# Altium integrated library Xilinx CoolRunner XPLA3.IntLib: 220 symbols (part 5 of 17)
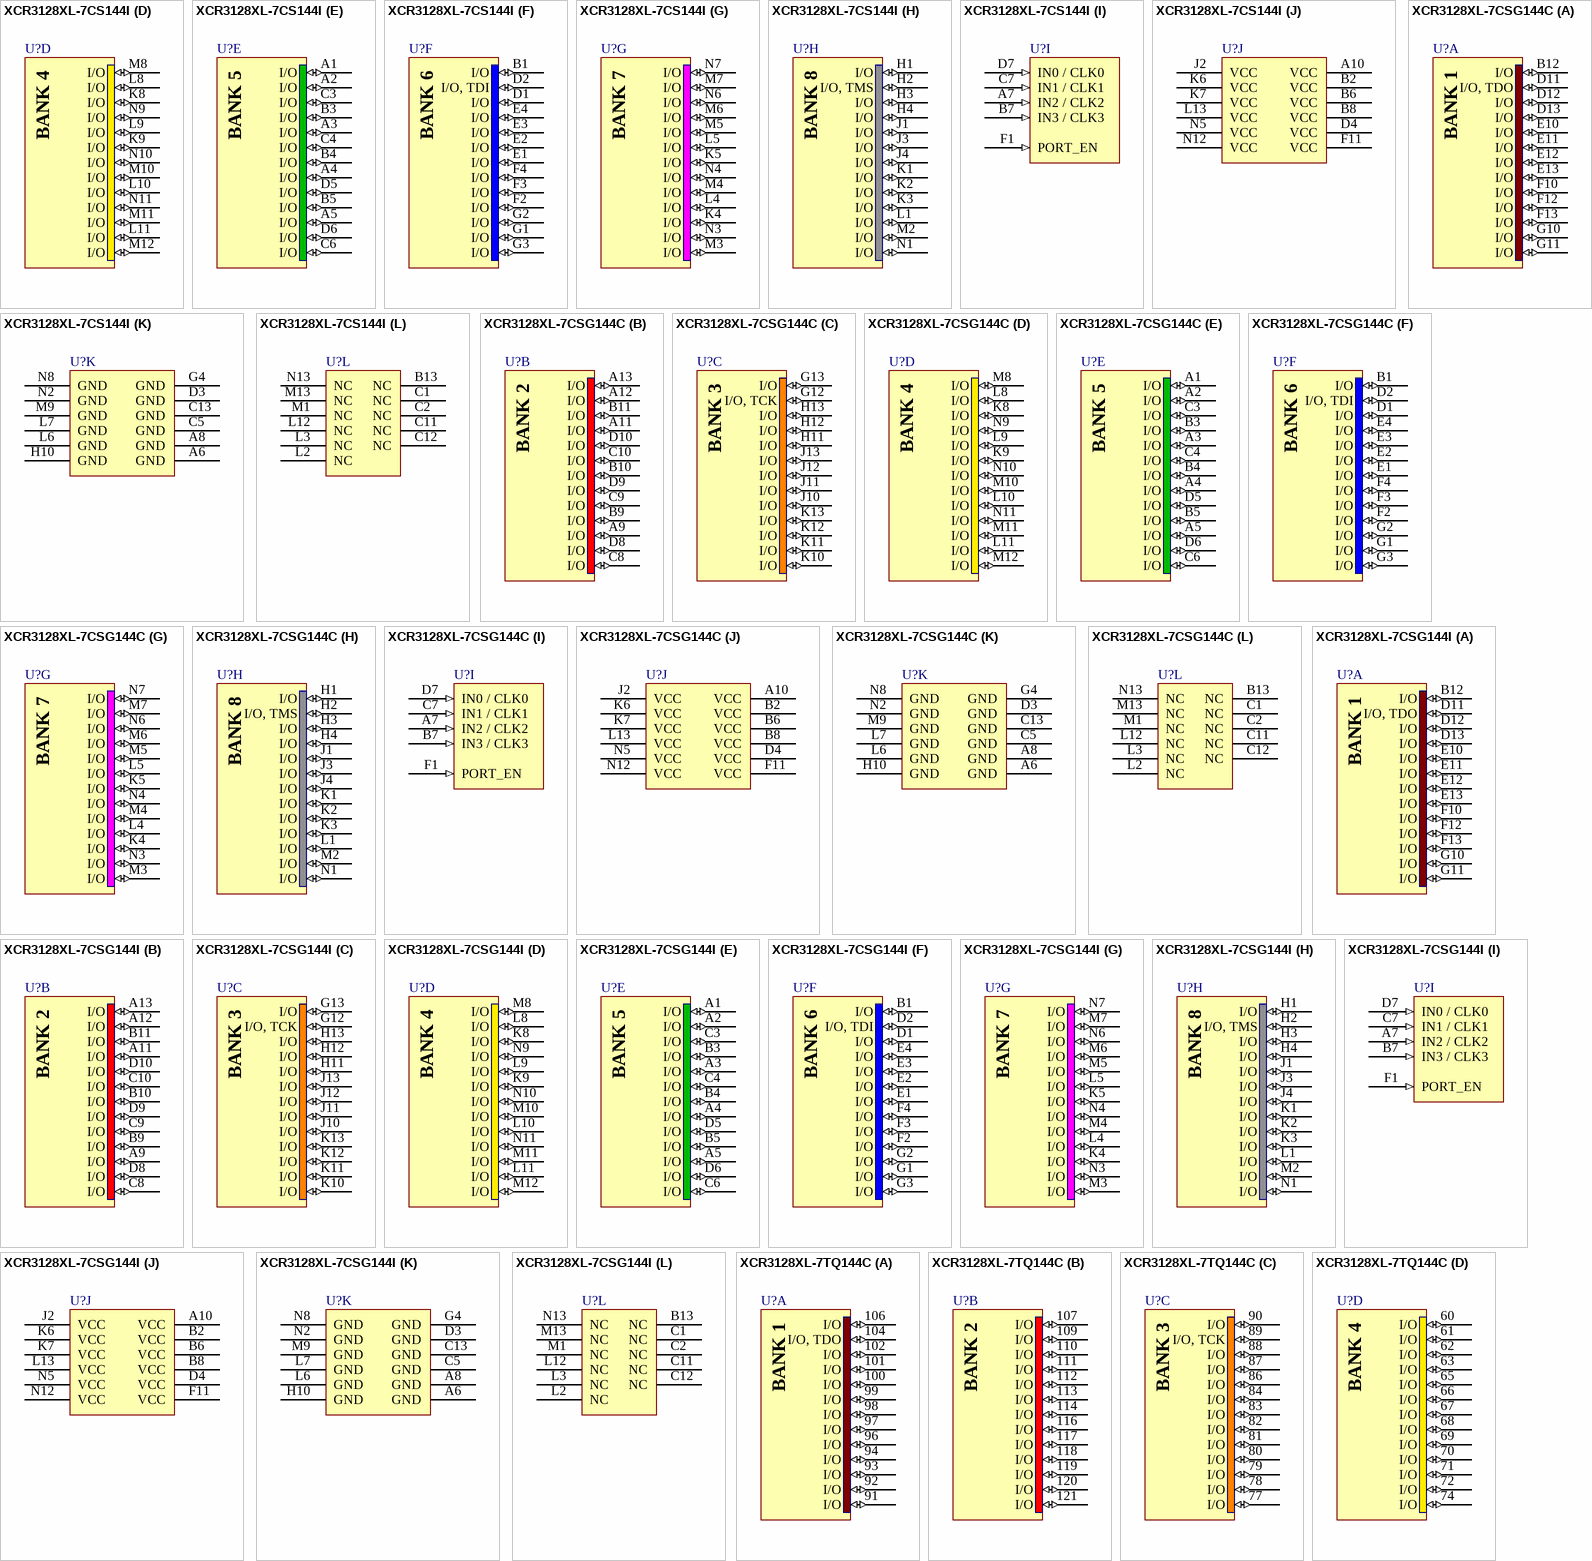
[diagram p93: symbols XCR3128XL-7CS144I to XCR3128XL-7TQ144C]

## XCR3128XL-7CSG144I
designator U?
CoolRunner XPLA3 3.3V, 128 Macrocell CPLD, 108 User I/Os, 144-Ball CSBGA, Industrial Grade, Pb-Free; Published: 6-Oct-2005; LatestRevisionDate: 13-Apr-2006; LatestRevisionNote: IPC-7351 Footprint Added.; DatasheetVersion: ver2.6, Mar-2006; PackageVersion: ver1.3, Jan-2007; PackageReference: CSG144; Publisher: Altium Limited; PackageDescription: 144-Ball Chip Scale Ball Grid Array (CSG144) - Pb-Free; Code_JEDEC: MO-216-BAG-2 (Depopulated); ComponentLink1Description: XCR3128XL Datasheet; ComponentLink1URL: http://www.xilinx.com/support/documentation/data_sheets/ds016.pdf; ComponentLink2Description: CSG144 Package Drawing; ComponentLink2URL: http://www.xilinx.com/support/documentation/package_specs/cs144.pdf; ComponentLink3Description: CoolRunner XPLA3 Documents; ComponentLink3URL: http://www.xilinx.com/support/documentation/coolrunner_xpla3.htm; ComponentLink4Description: Xilinx.com Home; ComponentLink4URL: http://www.xilinx.com
footprint CSG144 (BGA, 144-Leads, Body 12x12mm, Pitch 0.8mm)
signal-integrity model XCR3128XL_CS144 (CoolRunner XPLA3)
part A pins: B12 I/O (io), D11 I/O, TDO (io), D12 I/O (io), D13 I/O (io), E10 I/O (io), E11 I/O (io), E12 I/O (io), E13 I/O (io), F10 I/O (io), F12 I/O (io), F13 I/O (io), G10 I/O (io), G11 I/O (io)
part B pins: A9 I/O (io), A11 I/O (io), A12 I/O (io), A13 I/O (io), B9 I/O (io), B10 I/O (io), B11 I/O (io), C8 I/O (io), C9 I/O (io), C10 I/O (io), D8 I/O (io), D9 I/O (io), D10 I/O (io)
part C pins: G12 I/O, TCK (io), G13 I/O (io), H11 I/O (io), H12 I/O (io), H13 I/O (io), J10 I/O (io), J11 I/O (io), J12 I/O (io), J13 I/O (io), K10 I/O (io), K11 I/O (io), K12 I/O (io), K13 I/O (io)
part D pins: K8 I/O (io), K9 I/O (io), L8 I/O (io), L9 I/O (io), L10 I/O (io), L11 I/O (io), M8 I/O (io), M10 I/O (io), M11 I/O (io), M12 I/O (io), N9 I/O (io), N10 I/O (io), N11 I/O (io)
part E pins: A1 I/O (io), A2 I/O (io), A3 I/O (io), A4 I/O (io), A5 I/O (io), B3 I/O (io), B4 I/O (io), B5 I/O (io), C3 I/O (io), C4 I/O (io), C6 I/O (io), D5 I/O (io), D6 I/O (io)
part F pins: B1 I/O (io), D1 I/O (io), D2 I/O, TDI (io), E1 I/O (io), E2 I/O (io), E3 I/O (io), E4 I/O (io), F2 I/O (io), F3 I/O (io), F4 I/O (io), G1 I/O (io), G2 I/O (io), G3 I/O (io)
part G pins: K4 I/O (io), K5 I/O (io), L4 I/O (io), L5 I/O (io), M3 I/O (io), M4 I/O (io), M5 I/O (io), M6 I/O (io), M7 I/O (io), N3 I/O (io), N4 I/O (io), N6 I/O (io), N7 I/O (io)
part H pins: H1 I/O (io), H2 I/O, TMS (io), H3 I/O (io), H4 I/O (io), J1 I/O (io), J3 I/O (io), J4 I/O (io), K1 I/O (io), K2 I/O (io), K3 I/O (io), L1 I/O (io), M2 I/O (io), N1 I/O (io)
part I pins: A7 IN2 / CLK2 (in), B7 IN3 / CLK3 (in), C7 IN1 / CLK1 (in), D7 IN0 / CLK0 (in), F1 PORT_EN (in)
part J pins: A10 VCC (power), B2 VCC (power), B6 VCC (power), B8 VCC (power), D4 VCC (power), F11 VCC (power), J2 VCC (power), K6 VCC (power), K7 VCC (power), L13 VCC (power), N5 VCC (power), N12 VCC (power)
part K pins: A6 GND (power), A8 GND (power), C5 GND (power), C13 GND (power), D3 GND (power), G4 GND (power), H10 GND (power), L6 GND (power), L7 GND (power), M9 GND (power), N2 GND (power), N8 GND (power)
part L pins: B13 NC, C1 NC, C2 NC, C11 NC, C12 NC, L2 NC, L3 NC, L12 NC, M1 NC, M13 NC, N13 NC
part A text: BANK 1
part B text: BANK 2
part C text: BANK 3
part D text: BANK 4
part E text: BANK 5
part F text: BANK 6
part G text: BANK 7
part H text: BANK 8

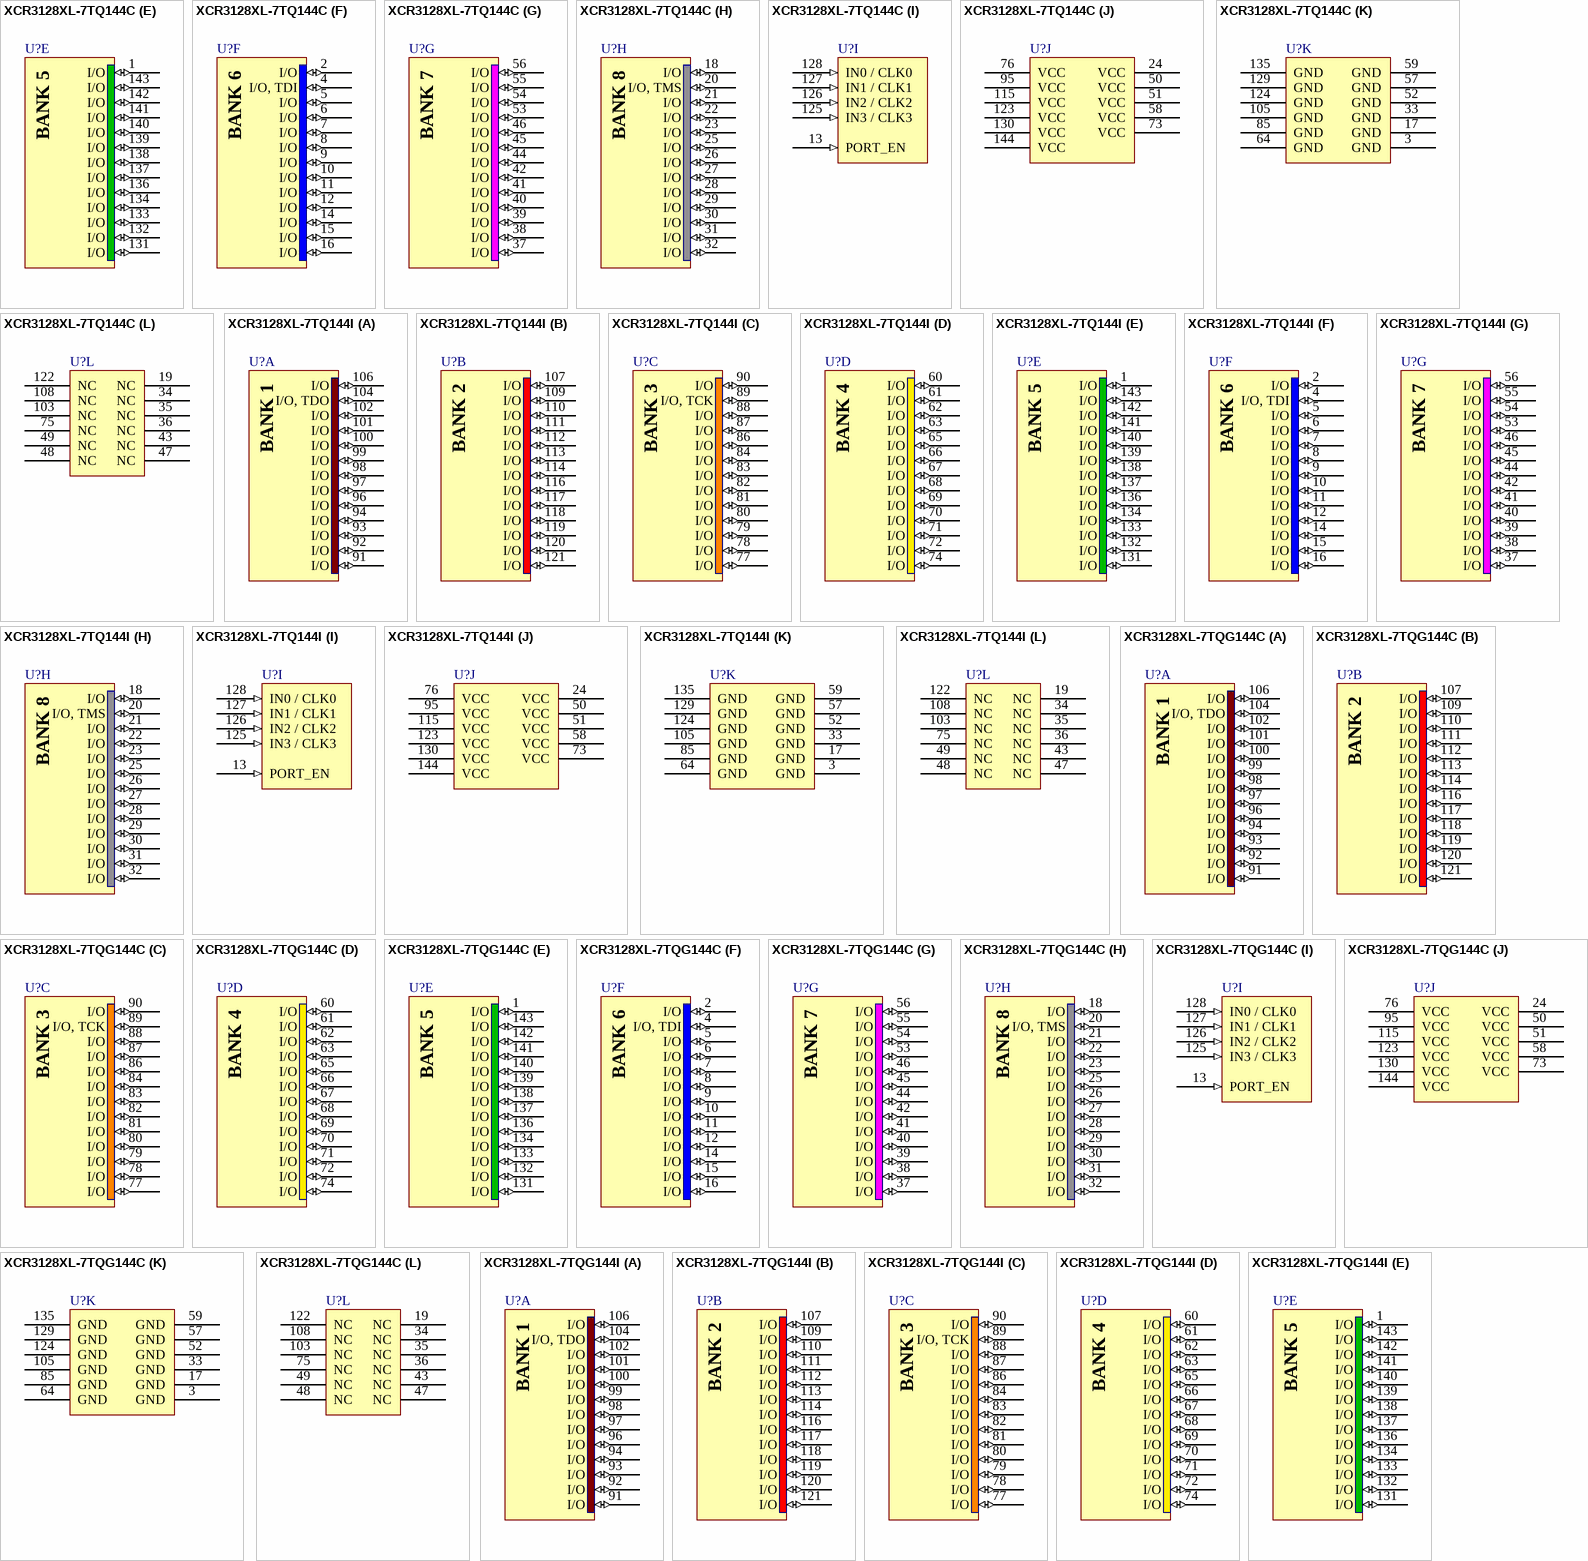
[diagram p19: symbols XCR3128XL-7TQ144C to XCR3128XL-7TQG144I]

## XCR3128XL-7TQ144C
designator U?
CoolRunner XPLA3 3.3V, 128 Macrocell CPLD, 108 User I/Os, 144-Pin TQFP, Commercial Grade; Published: 17-Jul-2002; LatestRevisionDate: 13-Apr-2006; LatestRevisionNote: IPC-7351 Footprint Added.; DatasheetVersion: ver2.6, Mar-2006; PackageVersion: ver1.2, Jun-2004; PackageReference: TQ144; Publisher: Altium Limited; PackageDescription: 144-Pin Thin Quad Flat Pack (TQ144); Supplier 1: Digi-Key; Supplier Part Number 1: XCR3128XL-7TQ144C-ND; Code_JEDEC: MS-026-BFB; ComponentLink1Description: XCR3128XL Datasheet; ComponentLink1URL: http://www.xilinx.com/support/documentation/data_sheets/ds016.pdf; ComponentLink2Description: TQ144 Package Drawing; ComponentLink2URL: http://www.xilinx.com/support/documentation/package_specs/tq144.pdf; ComponentLink3Description: CoolRunner XPLA3 Documents; ComponentLink3URL: http://www.xilinx.com/support/documentation/coolrunner_xpla3.htm; ComponentLink4Description: Xilinx.com Home; ComponentLink4URL: http://www.xilinx.com
footprint TQ144_N (Thin QFP, 144-Leads, Body 20x20mm, Pitch 0.5mm, IPC Medium Density)
footprint TQ144_L (Thin QFP, 144-Leads, Body 20x20mm, Pitch 0.5mm, IPC High Density)
footprint TQ144_M (Thin QFP, 144-Leads, Body 20x20mm, Pitch 0.5mm, IPC Low Density)
signal-integrity model XCR3128XL_TQ144 (CoolRunner XPLA3)
part A pins: 91 I/O (io), 92 I/O (io), 93 I/O (io), 94 I/O (io), 96 I/O (io), 97 I/O (io), 98 I/O (io), 99 I/O (io), 100 I/O (io), 101 I/O (io), 102 I/O (io), 104 I/O, TDO (io), 106 I/O (io)
part B pins: 107 I/O (io), 109 I/O (io), 110 I/O (io), 111 I/O (io), 112 I/O (io), 113 I/O (io), 114 I/O (io), 116 I/O (io), 117 I/O (io), 118 I/O (io), 119 I/O (io), 120 I/O (io), 121 I/O (io)
part C pins: 77 I/O (io), 78 I/O (io), 79 I/O (io), 80 I/O (io), 81 I/O (io), 82 I/O (io), 83 I/O (io), 84 I/O (io), 86 I/O (io), 87 I/O (io), 88 I/O (io), 89 I/O, TCK (io), 90 I/O (io)
part D pins: 60 I/O (io), 61 I/O (io), 62 I/O (io), 63 I/O (io), 65 I/O (io), 66 I/O (io), 67 I/O (io), 68 I/O (io), 69 I/O (io), 70 I/O (io), 71 I/O (io), 72 I/O (io), 74 I/O (io)
part E pins: 1 I/O (io), 131 I/O (io), 132 I/O (io), 133 I/O (io), 134 I/O (io), 136 I/O (io), 137 I/O (io), 138 I/O (io), 139 I/O (io), 140 I/O (io), 141 I/O (io), 142 I/O (io), 143 I/O (io)
part F pins: 2 I/O (io), 4 I/O, TDI (io), 5 I/O (io), 6 I/O (io), 7 I/O (io), 8 I/O (io), 9 I/O (io), 10 I/O (io), 11 I/O (io), 12 I/O (io), 14 I/O (io), 15 I/O (io), 16 I/O (io)
part G pins: 37 I/O (io), 38 I/O (io), 39 I/O (io), 40 I/O (io), 41 I/O (io), 42 I/O (io), 44 I/O (io), 45 I/O (io), 46 I/O (io), 53 I/O (io), 54 I/O (io), 55 I/O (io), 56 I/O (io)
part H pins: 18 I/O (io), 20 I/O, TMS (io), 21 I/O (io), 22 I/O (io), 23 I/O (io), 25 I/O (io), 26 I/O (io), 27 I/O (io), 28 I/O (io), 29 I/O (io), 30 I/O (io), 31 I/O (io), 32 I/O (io)
part I pins: 13 PORT_EN (in), 125 IN3 / CLK3 (in), 126 IN2 / CLK2 (in), 127 IN1 / CLK1 (in), 128 IN0 / CLK0 (in)
part J pins: 24 VCC (power), 50 VCC (power), 51 VCC (power), 58 VCC (power), 73 VCC (power), 76 VCC (power), 95 VCC (power), 115 VCC (power), 123 VCC (power), 130 VCC (power), 144 VCC (power)
part K pins: 3 GND (power), 17 GND (power), 33 GND (power), 52 GND (power), 57 GND (power), 59 GND (power), 64 GND (power), 85 GND (power), 105 GND (power), 124 GND (power), 129 GND (power), 135 GND (power)
part L pins: 19 NC, 34 NC, 35 NC, 36 NC, 43 NC, 47 NC, 48 NC, 49 NC, 75 NC, 103 NC, 108 NC, 122 NC
part A text: BANK 1
part B text: BANK 2
part C text: BANK 3
part D text: BANK 4
part E text: BANK 5
part F text: BANK 6
part G text: BANK 7
part H text: BANK 8

## XCR3128XL-7TQ144I
designator U?
CoolRunner XPLA3 3.3V, 128 Macrocell CPLD, 108 User I/Os, 144-Pin TQFP, Industrial Grade; Published: 17-Sep-2003; LatestRevisionDate: 13-Apr-2006; LatestRevisionNote: IPC-7351 Footprint Added.; DatasheetVersion: ver2.6, Mar-2006; PackageVersion: ver1.2, Jun-2004; PackageReference: TQ144; Publisher: Altium Limited; PackageDescription: 144-Pin Thin Quad Flat Pack (TQ144); Code_JEDEC: MS-026-BFB; ComponentLink1Description: XCR3128XL Datasheet; ComponentLink1URL: http://www.xilinx.com/support/documentation/data_sheets/ds016.pdf; ComponentLink2Description: TQ144 Package Drawing; ComponentLink2URL: http://www.xilinx.com/support/documentation/package_specs/tq144.pdf; ComponentLink3Description: CoolRunner XPLA3 Documents; ComponentLink3URL: http://www.xilinx.com/support/documentation/coolrunner_xpla3.htm; ComponentLink4Description: Xilinx.com Home; ComponentLink4URL: http://www.xilinx.com
footprint TQ144_N (Thin QFP, 144-Leads, Body 20x20mm, Pitch 0.5mm, IPC Medium Density)
footprint TQ144_L (Thin QFP, 144-Leads, Body 20x20mm, Pitch 0.5mm, IPC High Density)
footprint TQ144_M (Thin QFP, 144-Leads, Body 20x20mm, Pitch 0.5mm, IPC Low Density)
signal-integrity model XCR3128XL_TQ144 (CoolRunner XPLA3)
part A pins: 91 I/O (io), 92 I/O (io), 93 I/O (io), 94 I/O (io), 96 I/O (io), 97 I/O (io), 98 I/O (io), 99 I/O (io), 100 I/O (io), 101 I/O (io), 102 I/O (io), 104 I/O, TDO (io), 106 I/O (io)
part B pins: 107 I/O (io), 109 I/O (io), 110 I/O (io), 111 I/O (io), 112 I/O (io), 113 I/O (io), 114 I/O (io), 116 I/O (io), 117 I/O (io), 118 I/O (io), 119 I/O (io), 120 I/O (io), 121 I/O (io)
part C pins: 77 I/O (io), 78 I/O (io), 79 I/O (io), 80 I/O (io), 81 I/O (io), 82 I/O (io), 83 I/O (io), 84 I/O (io), 86 I/O (io), 87 I/O (io), 88 I/O (io), 89 I/O, TCK (io), 90 I/O (io)
part D pins: 60 I/O (io), 61 I/O (io), 62 I/O (io), 63 I/O (io), 65 I/O (io), 66 I/O (io), 67 I/O (io), 68 I/O (io), 69 I/O (io), 70 I/O (io), 71 I/O (io), 72 I/O (io), 74 I/O (io)
part E pins: 1 I/O (io), 131 I/O (io), 132 I/O (io), 133 I/O (io), 134 I/O (io), 136 I/O (io), 137 I/O (io), 138 I/O (io), 139 I/O (io), 140 I/O (io), 141 I/O (io), 142 I/O (io), 143 I/O (io)
part F pins: 2 I/O (io), 4 I/O, TDI (io), 5 I/O (io), 6 I/O (io), 7 I/O (io), 8 I/O (io), 9 I/O (io), 10 I/O (io), 11 I/O (io), 12 I/O (io), 14 I/O (io), 15 I/O (io), 16 I/O (io)
part G pins: 37 I/O (io), 38 I/O (io), 39 I/O (io), 40 I/O (io), 41 I/O (io), 42 I/O (io), 44 I/O (io), 45 I/O (io), 46 I/O (io), 53 I/O (io), 54 I/O (io), 55 I/O (io), 56 I/O (io)
part H pins: 18 I/O (io), 20 I/O, TMS (io), 21 I/O (io), 22 I/O (io), 23 I/O (io), 25 I/O (io), 26 I/O (io), 27 I/O (io), 28 I/O (io), 29 I/O (io), 30 I/O (io), 31 I/O (io), 32 I/O (io)
part I pins: 13 PORT_EN (in), 125 IN3 / CLK3 (in), 126 IN2 / CLK2 (in), 127 IN1 / CLK1 (in), 128 IN0 / CLK0 (in)
part J pins: 24 VCC (power), 50 VCC (power), 51 VCC (power), 58 VCC (power), 73 VCC (power), 76 VCC (power), 95 VCC (power), 115 VCC (power), 123 VCC (power), 130 VCC (power), 144 VCC (power)
part K pins: 3 GND (power), 17 GND (power), 33 GND (power), 52 GND (power), 57 GND (power), 59 GND (power), 64 GND (power), 85 GND (power), 105 GND (power), 124 GND (power), 129 GND (power), 135 GND (power)
part L pins: 19 NC, 34 NC, 35 NC, 36 NC, 43 NC, 47 NC, 48 NC, 49 NC, 75 NC, 103 NC, 108 NC, 122 NC
part A text: BANK 1
part B text: BANK 2
part C text: BANK 3
part D text: BANK 4
part E text: BANK 5
part F text: BANK 6
part G text: BANK 7
part H text: BANK 8

## XCR3128XL-7TQG144C
designator U?
CoolRunner XPLA3 3.3V, 128 Macrocell CPLD, 108 User I/Os, 144-Pin TQFP, Commercial Grade, Pb-Free; Published: 6-Oct-2005; LatestRevisionDate: 13-Apr-2006; LatestRevisionNote: IPC-7351 Footprint Added.; DatasheetVersion: ver2.6, Mar-2006; PackageVersion: ver1.2, Jun-2004; PackageReference: TQG144; Publisher: Altium Limited; PackageDescription: 144-Pin Thin Quad Flat Pack (TQG144) - Pb-Free; Code_JEDEC: MS-026-BFB; ComponentLink1Description: XCR3128XL Datasheet; ComponentLink1URL: http://www.xilinx.com/support/documentation/data_sheets/ds016.pdf; ComponentLink2Description: TQG144 Package Drawing; ComponentLink2URL: http://www.xilinx.com/support/documentation/package_specs/tq144.pdf; ComponentLink3Description: CoolRunner XPLA3 Documents; ComponentLink3URL: http://www.xilinx.com/support/documentation/coolrunner_xpla3.htm; ComponentLink4Description: Xilinx.com Home; ComponentLink4URL: http://www.xilinx.com
footprint TQG144_N (Thin QFP, 144-Leads, Body 20x20mm, Pitch 0.5mm, IPC Medium Density)
footprint TQG144_L (Thin QFP, 144-Leads, Body 20x20mm, Pitch 0.5mm, IPC High Density)
footprint TQG144_M (Thin QFP, 144-Leads, Body 20x20mm, Pitch 0.5mm, IPC Low Density)
signal-integrity model XCR3128XL_TQ144 (CoolRunner XPLA3)
part A pins: 91 I/O (io), 92 I/O (io), 93 I/O (io), 94 I/O (io), 96 I/O (io), 97 I/O (io), 98 I/O (io), 99 I/O (io), 100 I/O (io), 101 I/O (io), 102 I/O (io), 104 I/O, TDO (io), 106 I/O (io)
part B pins: 107 I/O (io), 109 I/O (io), 110 I/O (io), 111 I/O (io), 112 I/O (io), 113 I/O (io), 114 I/O (io), 116 I/O (io), 117 I/O (io), 118 I/O (io), 119 I/O (io), 120 I/O (io), 121 I/O (io)
part C pins: 77 I/O (io), 78 I/O (io), 79 I/O (io), 80 I/O (io), 81 I/O (io), 82 I/O (io), 83 I/O (io), 84 I/O (io), 86 I/O (io), 87 I/O (io), 88 I/O (io), 89 I/O, TCK (io), 90 I/O (io)
part D pins: 60 I/O (io), 61 I/O (io), 62 I/O (io), 63 I/O (io), 65 I/O (io), 66 I/O (io), 67 I/O (io), 68 I/O (io), 69 I/O (io), 70 I/O (io), 71 I/O (io), 72 I/O (io), 74 I/O (io)
part E pins: 1 I/O (io), 131 I/O (io), 132 I/O (io), 133 I/O (io), 134 I/O (io), 136 I/O (io), 137 I/O (io), 138 I/O (io), 139 I/O (io), 140 I/O (io), 141 I/O (io), 142 I/O (io), 143 I/O (io)
part F pins: 2 I/O (io), 4 I/O, TDI (io), 5 I/O (io), 6 I/O (io), 7 I/O (io), 8 I/O (io), 9 I/O (io), 10 I/O (io), 11 I/O (io), 12 I/O (io), 14 I/O (io), 15 I/O (io), 16 I/O (io)
part G pins: 37 I/O (io), 38 I/O (io), 39 I/O (io), 40 I/O (io), 41 I/O (io), 42 I/O (io), 44 I/O (io), 45 I/O (io), 46 I/O (io), 53 I/O (io), 54 I/O (io), 55 I/O (io), 56 I/O (io)
part H pins: 18 I/O (io), 20 I/O, TMS (io), 21 I/O (io), 22 I/O (io), 23 I/O (io), 25 I/O (io), 26 I/O (io), 27 I/O (io), 28 I/O (io), 29 I/O (io), 30 I/O (io), 31 I/O (io), 32 I/O (io)
part I pins: 13 PORT_EN (in), 125 IN3 / CLK3 (in), 126 IN2 / CLK2 (in), 127 IN1 / CLK1 (in), 128 IN0 / CLK0 (in)
part J pins: 24 VCC (power), 50 VCC (power), 51 VCC (power), 58 VCC (power), 73 VCC (power), 76 VCC (power), 95 VCC (power), 115 VCC (power), 123 VCC (power), 130 VCC (power), 144 VCC (power)
part K pins: 3 GND (power), 17 GND (power), 33 GND (power), 52 GND (power), 57 GND (power), 59 GND (power), 64 GND (power), 85 GND (power), 105 GND (power), 124 GND (power), 129 GND (power), 135 GND (power)
part L pins: 19 NC, 34 NC, 35 NC, 36 NC, 43 NC, 47 NC, 48 NC, 49 NC, 75 NC, 103 NC, 108 NC, 122 NC
part A text: BANK 1
part B text: BANK 2
part C text: BANK 3
part D text: BANK 4
part E text: BANK 5
part F text: BANK 6
part G text: BANK 7
part H text: BANK 8

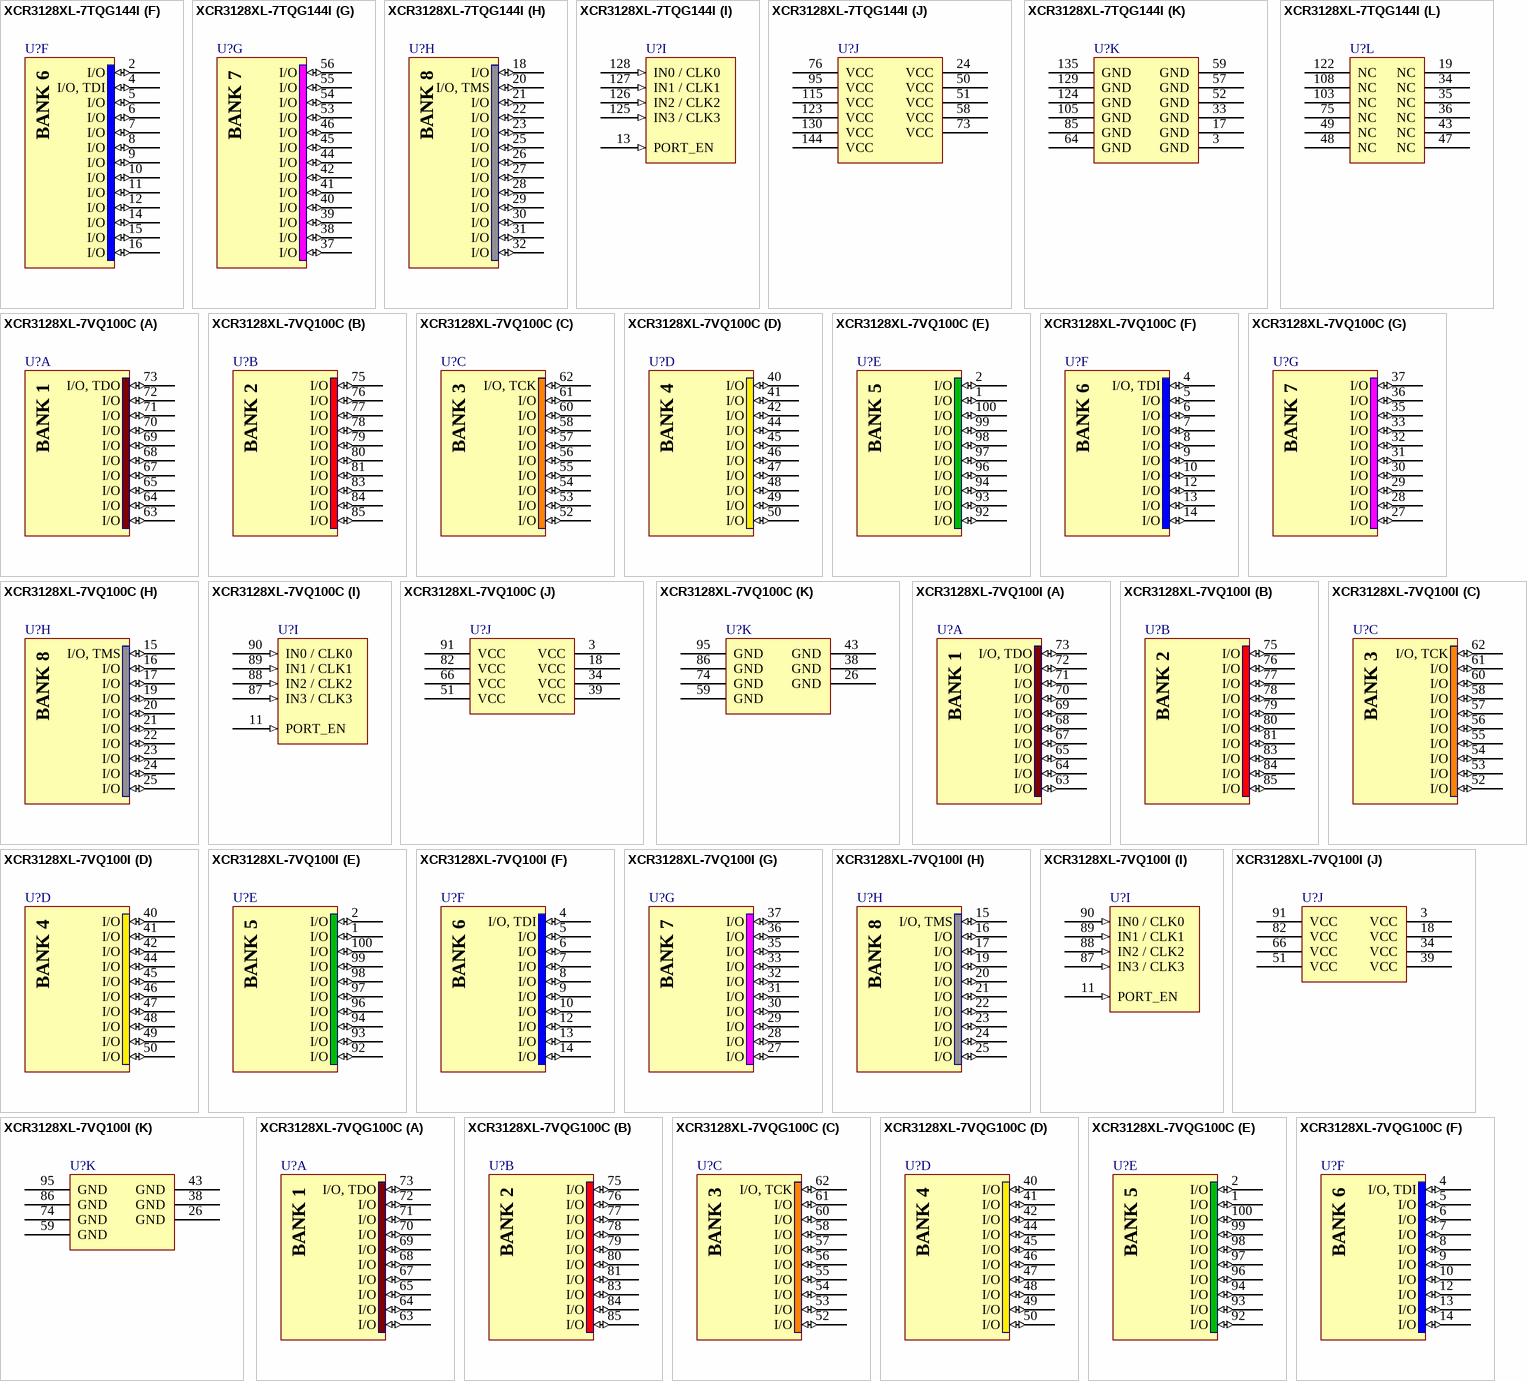
[diagram p20: symbols XCR3128XL-7TQG144I to XCR3128XL-7VQG100C]

## XCR3128XL-7TQG144I
designator U?
CoolRunner XPLA3 3.3V, 128 Macrocell CPLD, 108 User I/Os, 144-Pin TQFP, Industrial Grade, Pb-Free; Published: 6-Oct-2005; LatestRevisionDate: 13-Apr-2006; LatestRevisionNote: IPC-7351 Footprint Added.; DatasheetVersion: ver2.6, Mar-2006; PackageVersion: ver1.2, Jun-2004; PackageReference: TQG144; Publisher: Altium Limited; PackageDescription: 144-Pin Thin Quad Flat Pack (TQG144) - Pb-Free; Code_JEDEC: MS-026-BFB; ComponentLink1Description: XCR3128XL Datasheet; ComponentLink1URL: http://www.xilinx.com/support/documentation/data_sheets/ds016.pdf; ComponentLink2Description: TQG144 Package Drawing; ComponentLink2URL: http://www.xilinx.com/support/documentation/package_specs/tq144.pdf; ComponentLink3Description: CoolRunner XPLA3 Documents; ComponentLink3URL: http://www.xilinx.com/support/documentation/coolrunner_xpla3.htm; ComponentLink4Description: Xilinx.com Home; ComponentLink4URL: http://www.xilinx.com
footprint TQG144_N (Thin QFP, 144-Leads, Body 20x20mm, Pitch 0.5mm, IPC Medium Density)
footprint TQG144_L (Thin QFP, 144-Leads, Body 20x20mm, Pitch 0.5mm, IPC High Density)
footprint TQG144_M (Thin QFP, 144-Leads, Body 20x20mm, Pitch 0.5mm, IPC Low Density)
signal-integrity model XCR3128XL_TQ144 (CoolRunner XPLA3)
part A pins: 91 I/O (io), 92 I/O (io), 93 I/O (io), 94 I/O (io), 96 I/O (io), 97 I/O (io), 98 I/O (io), 99 I/O (io), 100 I/O (io), 101 I/O (io), 102 I/O (io), 104 I/O, TDO (io), 106 I/O (io)
part B pins: 107 I/O (io), 109 I/O (io), 110 I/O (io), 111 I/O (io), 112 I/O (io), 113 I/O (io), 114 I/O (io), 116 I/O (io), 117 I/O (io), 118 I/O (io), 119 I/O (io), 120 I/O (io), 121 I/O (io)
part C pins: 77 I/O (io), 78 I/O (io), 79 I/O (io), 80 I/O (io), 81 I/O (io), 82 I/O (io), 83 I/O (io), 84 I/O (io), 86 I/O (io), 87 I/O (io), 88 I/O (io), 89 I/O, TCK (io), 90 I/O (io)
part D pins: 60 I/O (io), 61 I/O (io), 62 I/O (io), 63 I/O (io), 65 I/O (io), 66 I/O (io), 67 I/O (io), 68 I/O (io), 69 I/O (io), 70 I/O (io), 71 I/O (io), 72 I/O (io), 74 I/O (io)
part E pins: 1 I/O (io), 131 I/O (io), 132 I/O (io), 133 I/O (io), 134 I/O (io), 136 I/O (io), 137 I/O (io), 138 I/O (io), 139 I/O (io), 140 I/O (io), 141 I/O (io), 142 I/O (io), 143 I/O (io)
part F pins: 2 I/O (io), 4 I/O, TDI (io), 5 I/O (io), 6 I/O (io), 7 I/O (io), 8 I/O (io), 9 I/O (io), 10 I/O (io), 11 I/O (io), 12 I/O (io), 14 I/O (io), 15 I/O (io), 16 I/O (io)
part G pins: 37 I/O (io), 38 I/O (io), 39 I/O (io), 40 I/O (io), 41 I/O (io), 42 I/O (io), 44 I/O (io), 45 I/O (io), 46 I/O (io), 53 I/O (io), 54 I/O (io), 55 I/O (io), 56 I/O (io)
part H pins: 18 I/O (io), 20 I/O, TMS (io), 21 I/O (io), 22 I/O (io), 23 I/O (io), 25 I/O (io), 26 I/O (io), 27 I/O (io), 28 I/O (io), 29 I/O (io), 30 I/O (io), 31 I/O (io), 32 I/O (io)
part I pins: 13 PORT_EN (in), 125 IN3 / CLK3 (in), 126 IN2 / CLK2 (in), 127 IN1 / CLK1 (in), 128 IN0 / CLK0 (in)
part J pins: 24 VCC (power), 50 VCC (power), 51 VCC (power), 58 VCC (power), 73 VCC (power), 76 VCC (power), 95 VCC (power), 115 VCC (power), 123 VCC (power), 130 VCC (power), 144 VCC (power)
part K pins: 3 GND (power), 17 GND (power), 33 GND (power), 52 GND (power), 57 GND (power), 59 GND (power), 64 GND (power), 85 GND (power), 105 GND (power), 124 GND (power), 129 GND (power), 135 GND (power)
part L pins: 19 NC, 34 NC, 35 NC, 36 NC, 43 NC, 47 NC, 48 NC, 49 NC, 75 NC, 103 NC, 108 NC, 122 NC
part A text: BANK 1
part B text: BANK 2
part C text: BANK 3
part D text: BANK 4
part E text: BANK 5
part F text: BANK 6
part G text: BANK 7
part H text: BANK 8

## XCR3128XL-7VQ100C
designator U?
CoolRunner XPLA3 3.3V, 128 Macrocell CPLD, 84 User I/Os, 100-Pin VQFP, Commercial Grade; Published: 17-Jul-2002; LatestRevisionDate: 13-Apr-2006; LatestRevisionNote: IPC-7351 Footprint Added.; DatasheetVersion: ver2.6, Mar-2006; PackageVersion: ver1.2.1, Feb-2007; PackageReference: VQ100; Publisher: Altium Limited; PackageDescription: 100-Pin Very Thin Quad Flat Pack (VQ100); Supplier 1: Digi-Key; Supplier Part Number 1: XCR3128XL-7VQ100C-ND; Code_JEDEC: MS-026-AED; ComponentLink1Description: XCR3128XL Datasheet; ComponentLink1URL: http://www.xilinx.com/support/documentation/data_sheets/ds016.pdf; ComponentLink2Description: VQ100 Package Drawing; ComponentLink2URL: http://www.xilinx.com/support/documentation/package_specs/vq100.pdf; ComponentLink3Description: CoolRunner XPLA3 Documents; ComponentLink3URL: http://www.xilinx.com/support/documentation/coolrunner_xpla3.htm; ComponentLink4Description: Xilinx.com Home; ComponentLink4URL: http://www.xilinx.com
footprint VQ100_N (Thin QFP, 100-Leads, Body 14x14mm, Pitch 0.5mm, IPC Medium Density)
footprint VQ100_L (Thin QFP, 100-Leads, Body 14x14mm, Pitch 0.5mm, IPC High Density)
footprint VQ100_M (Thin QFP, 100-Leads, Body 14x14mm, Pitch 0.5mm, IPC Low Density)
signal-integrity model XCR3128XL_VQ100 (CoolRunner XPLA3)
part A pins: 63 I/O (io), 64 I/O (io), 65 I/O (io), 67 I/O (io), 68 I/O (io), 69 I/O (io), 70 I/O (io), 71 I/O (io), 72 I/O (io), 73 I/O, TDO (io)
part B pins: 75 I/O (io), 76 I/O (io), 77 I/O (io), 78 I/O (io), 79 I/O (io), 80 I/O (io), 81 I/O (io), 83 I/O (io), 84 I/O (io), 85 I/O (io)
part C pins: 52 I/O (io), 53 I/O (io), 54 I/O (io), 55 I/O (io), 56 I/O (io), 57 I/O (io), 58 I/O (io), 60 I/O (io), 61 I/O (io), 62 I/O, TCK (io)
part D pins: 40 I/O (io), 41 I/O (io), 42 I/O (io), 44 I/O (io), 45 I/O (io), 46 I/O (io), 47 I/O (io), 48 I/O (io), 49 I/O (io), 50 I/O (io)
part E pins: 1 I/O (io), 2 I/O (io), 92 I/O (io), 93 I/O (io), 94 I/O (io), 96 I/O (io), 97 I/O (io), 98 I/O (io), 99 I/O (io), 100 I/O (io)
part F pins: 4 I/O, TDI (io), 5 I/O (io), 6 I/O (io), 7 I/O (io), 8 I/O (io), 9 I/O (io), 10 I/O (io), 12 I/O (io), 13 I/O (io), 14 I/O (io)
part G pins: 27 I/O (io), 28 I/O (io), 29 I/O (io), 30 I/O (io), 31 I/O (io), 32 I/O (io), 33 I/O (io), 35 I/O (io), 36 I/O (io), 37 I/O (io)
part H pins: 15 I/O, TMS (io), 16 I/O (io), 17 I/O (io), 19 I/O (io), 20 I/O (io), 21 I/O (io), 22 I/O (io), 23 I/O (io), 24 I/O (io), 25 I/O (io)
part I pins: 11 PORT_EN (in), 87 IN3 / CLK3 (in), 88 IN2 / CLK2 (in), 89 IN1 / CLK1 (in), 90 IN0 / CLK0 (in)
part J pins: 3 VCC (power), 18 VCC (power), 34 VCC (power), 39 VCC (power), 51 VCC (power), 66 VCC (power), 82 VCC (power), 91 VCC (power)
part K pins: 26 GND (power), 38 GND (power), 43 GND (power), 59 GND (power), 74 GND (power), 86 GND (power), 95 GND (power)
part A text: BANK 1
part B text: BANK 2
part C text: BANK 3
part D text: BANK 4
part E text: BANK 5
part F text: BANK 6
part G text: BANK 7
part H text: BANK 8

## XCR3128XL-7VQ100I
designator U?
CoolRunner XPLA3 3.3V, 128 Macrocell CPLD, 84 User I/Os, 100-Pin VQFP, Industrial Grade; Published: 17-Sep-2003; LatestRevisionDate: 13-Apr-2006; LatestRevisionNote: IPC-7351 Footprint Added.; DatasheetVersion: ver2.6, Mar-2006; PackageVersion: ver1.2.1, Feb-2007; PackageReference: VQ100; Publisher: Altium Limited; PackageDescription: 100-Pin Very Thin Quad Flat Pack (VQ100); Code_JEDEC: MS-026-AED; ComponentLink1Description: XCR3128XL Datasheet; ComponentLink1URL: http://www.xilinx.com/support/documentation/data_sheets/ds016.pdf; ComponentLink2Description: VQ100 Package Drawing; ComponentLink2URL: http://www.xilinx.com/support/documentation/package_specs/vq100.pdf; ComponentLink3Description: CoolRunner XPLA3 Documents; ComponentLink3URL: http://www.xilinx.com/support/documentation/coolrunner_xpla3.htm; ComponentLink4Description: Xilinx.com Home; ComponentLink4URL: http://www.xilinx.com
footprint VQ100_N (Thin QFP, 100-Leads, Body 14x14mm, Pitch 0.5mm, IPC Medium Density)
footprint VQ100_L (Thin QFP, 100-Leads, Body 14x14mm, Pitch 0.5mm, IPC High Density)
footprint VQ100_M (Thin QFP, 100-Leads, Body 14x14mm, Pitch 0.5mm, IPC Low Density)
signal-integrity model XCR3128XL_VQ100 (CoolRunner XPLA3)
part A pins: 63 I/O (io), 64 I/O (io), 65 I/O (io), 67 I/O (io), 68 I/O (io), 69 I/O (io), 70 I/O (io), 71 I/O (io), 72 I/O (io), 73 I/O, TDO (io)
part B pins: 75 I/O (io), 76 I/O (io), 77 I/O (io), 78 I/O (io), 79 I/O (io), 80 I/O (io), 81 I/O (io), 83 I/O (io), 84 I/O (io), 85 I/O (io)
part C pins: 52 I/O (io), 53 I/O (io), 54 I/O (io), 55 I/O (io), 56 I/O (io), 57 I/O (io), 58 I/O (io), 60 I/O (io), 61 I/O (io), 62 I/O, TCK (io)
part D pins: 40 I/O (io), 41 I/O (io), 42 I/O (io), 44 I/O (io), 45 I/O (io), 46 I/O (io), 47 I/O (io), 48 I/O (io), 49 I/O (io), 50 I/O (io)
part E pins: 1 I/O (io), 2 I/O (io), 92 I/O (io), 93 I/O (io), 94 I/O (io), 96 I/O (io), 97 I/O (io), 98 I/O (io), 99 I/O (io), 100 I/O (io)
part F pins: 4 I/O, TDI (io), 5 I/O (io), 6 I/O (io), 7 I/O (io), 8 I/O (io), 9 I/O (io), 10 I/O (io), 12 I/O (io), 13 I/O (io), 14 I/O (io)
part G pins: 27 I/O (io), 28 I/O (io), 29 I/O (io), 30 I/O (io), 31 I/O (io), 32 I/O (io), 33 I/O (io), 35 I/O (io), 36 I/O (io), 37 I/O (io)
part H pins: 15 I/O, TMS (io), 16 I/O (io), 17 I/O (io), 19 I/O (io), 20 I/O (io), 21 I/O (io), 22 I/O (io), 23 I/O (io), 24 I/O (io), 25 I/O (io)
part I pins: 11 PORT_EN (in), 87 IN3 / CLK3 (in), 88 IN2 / CLK2 (in), 89 IN1 / CLK1 (in), 90 IN0 / CLK0 (in)
part J pins: 3 VCC (power), 18 VCC (power), 34 VCC (power), 39 VCC (power), 51 VCC (power), 66 VCC (power), 82 VCC (power), 91 VCC (power)
part K pins: 26 GND (power), 38 GND (power), 43 GND (power), 59 GND (power), 74 GND (power), 86 GND (power), 95 GND (power)
part A text: BANK 1
part B text: BANK 2
part C text: BANK 3
part D text: BANK 4
part E text: BANK 5
part F text: BANK 6
part G text: BANK 7
part H text: BANK 8

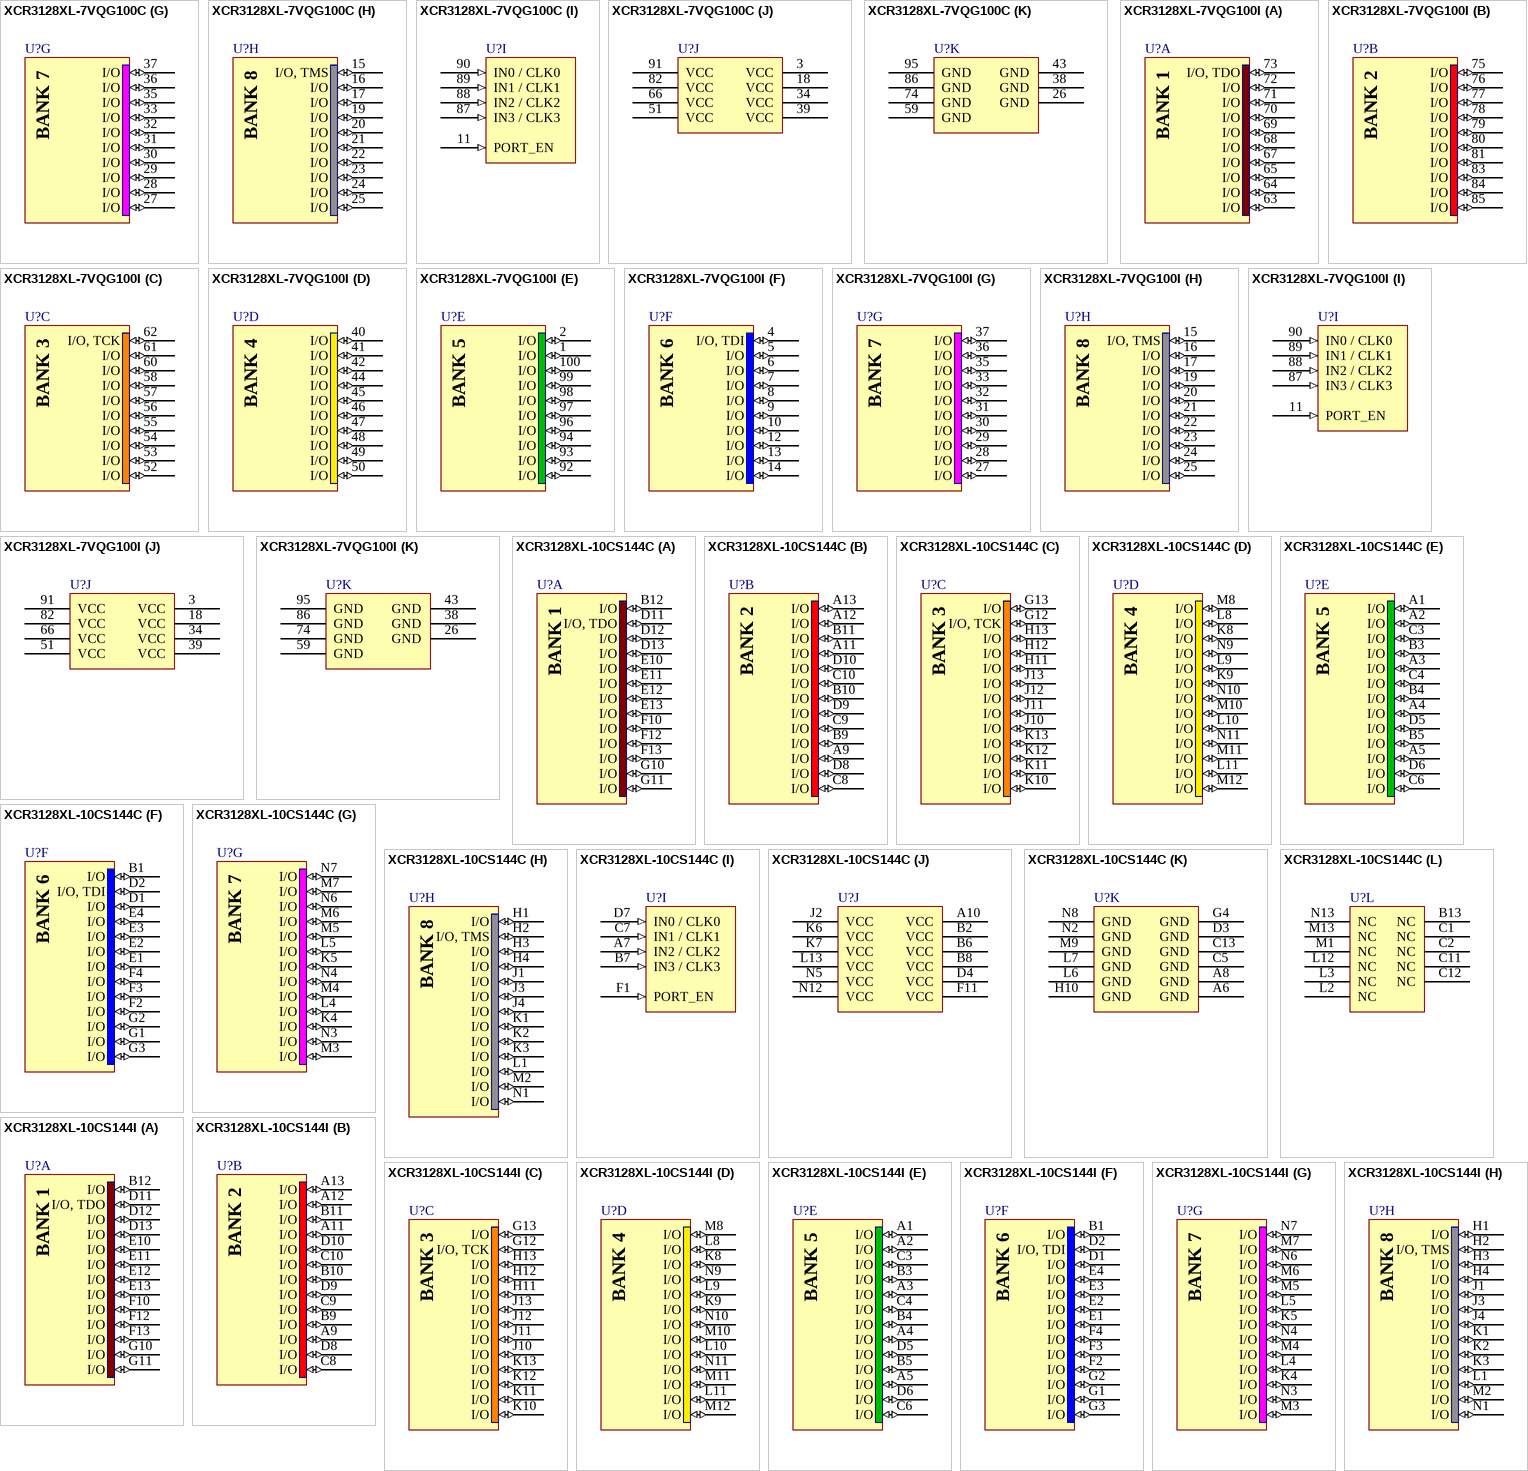
[diagram p21: symbols XCR3128XL-7VQG100C to XCR3128XL-10CS144I]

## XCR3128XL-7VQG100C
designator U?
CoolRunner XPLA3 3.3V, 128 Macrocell CPLD, 84 User I/Os, 100-Pin VQFP, Commercial Grade, Pb-Free; Published: 6-Oct-2005; LatestRevisionDate: 13-Apr-2006; LatestRevisionNote: IPC-7351 Footprint Added.; DatasheetVersion: ver2.6, Mar-2006; PackageVersion: ver1.2.1, Feb-2007; PackageReference: VQG100; Publisher: Altium Limited; PackageDescription: 100-Pin Very Thin Quad Flat Pack (VQG100) - Pb-Free; Code_JEDEC: MS-026-AED; ComponentLink1Description: XCR3128XL Datasheet; ComponentLink1URL: http://www.xilinx.com/support/documentation/data_sheets/ds016.pdf; ComponentLink2Description: VQG100 Package Drawing; ComponentLink2URL: http://www.xilinx.com/support/documentation/package_specs/vq100.pdf; ComponentLink3Description: CoolRunner XPLA3 Documents; ComponentLink3URL: http://www.xilinx.com/support/documentation/coolrunner_xpla3.htm; ComponentLink4Description: Xilinx.com Home; ComponentLink4URL: http://www.xilinx.com
footprint VQG100_N (Thin QFP, 100-Leads, Body 14x14mm, Pitch 0.5mm, IPC Medium Density)
footprint VQG100_L (Thin QFP, 100-Leads, Body 14x14mm, Pitch 0.5mm, IPC High Density)
footprint VQG100_M (Thin QFP, 100-Leads, Body 14x14mm, Pitch 0.5mm, IPC Low Density)
signal-integrity model XCR3128XL_VQ100 (CoolRunner XPLA3)
part A pins: 63 I/O (io), 64 I/O (io), 65 I/O (io), 67 I/O (io), 68 I/O (io), 69 I/O (io), 70 I/O (io), 71 I/O (io), 72 I/O (io), 73 I/O, TDO (io)
part B pins: 75 I/O (io), 76 I/O (io), 77 I/O (io), 78 I/O (io), 79 I/O (io), 80 I/O (io), 81 I/O (io), 83 I/O (io), 84 I/O (io), 85 I/O (io)
part C pins: 52 I/O (io), 53 I/O (io), 54 I/O (io), 55 I/O (io), 56 I/O (io), 57 I/O (io), 58 I/O (io), 60 I/O (io), 61 I/O (io), 62 I/O, TCK (io)
part D pins: 40 I/O (io), 41 I/O (io), 42 I/O (io), 44 I/O (io), 45 I/O (io), 46 I/O (io), 47 I/O (io), 48 I/O (io), 49 I/O (io), 50 I/O (io)
part E pins: 1 I/O (io), 2 I/O (io), 92 I/O (io), 93 I/O (io), 94 I/O (io), 96 I/O (io), 97 I/O (io), 98 I/O (io), 99 I/O (io), 100 I/O (io)
part F pins: 4 I/O, TDI (io), 5 I/O (io), 6 I/O (io), 7 I/O (io), 8 I/O (io), 9 I/O (io), 10 I/O (io), 12 I/O (io), 13 I/O (io), 14 I/O (io)
part G pins: 27 I/O (io), 28 I/O (io), 29 I/O (io), 30 I/O (io), 31 I/O (io), 32 I/O (io), 33 I/O (io), 35 I/O (io), 36 I/O (io), 37 I/O (io)
part H pins: 15 I/O, TMS (io), 16 I/O (io), 17 I/O (io), 19 I/O (io), 20 I/O (io), 21 I/O (io), 22 I/O (io), 23 I/O (io), 24 I/O (io), 25 I/O (io)
part I pins: 11 PORT_EN (in), 87 IN3 / CLK3 (in), 88 IN2 / CLK2 (in), 89 IN1 / CLK1 (in), 90 IN0 / CLK0 (in)
part J pins: 3 VCC (power), 18 VCC (power), 34 VCC (power), 39 VCC (power), 51 VCC (power), 66 VCC (power), 82 VCC (power), 91 VCC (power)
part K pins: 26 GND (power), 38 GND (power), 43 GND (power), 59 GND (power), 74 GND (power), 86 GND (power), 95 GND (power)
part A text: BANK 1
part B text: BANK 2
part C text: BANK 3
part D text: BANK 4
part E text: BANK 5
part F text: BANK 6
part G text: BANK 7
part H text: BANK 8

## XCR3128XL-7VQG100I
designator U?
CoolRunner XPLA3 3.3V, 128 Macrocell CPLD, 84 User I/Os, 100-Pin VQFP, Industrial Grade, Pb-Free; Published: 6-Oct-2005; LatestRevisionDate: 13-Apr-2006; LatestRevisionNote: IPC-7351 Footprint Added.; DatasheetVersion: ver2.6, Mar-2006; PackageVersion: ver1.2.1, Feb-2007; PackageReference: VQG100; Publisher: Altium Limited; PackageDescription: 100-Pin Very Thin Quad Flat Pack (VQG100) - Pb-Free; Code_JEDEC: MS-026-AED; ComponentLink1Description: XCR3128XL Datasheet; ComponentLink1URL: http://www.xilinx.com/support/documentation/data_sheets/ds016.pdf; ComponentLink2Description: VQG100 Package Drawing; ComponentLink2URL: http://www.xilinx.com/support/documentation/package_specs/vq100.pdf; ComponentLink3Description: CoolRunner XPLA3 Documents; ComponentLink3URL: http://www.xilinx.com/support/documentation/coolrunner_xpla3.htm; ComponentLink4Description: Xilinx.com Home; ComponentLink4URL: http://www.xilinx.com
footprint VQG100_N (Thin QFP, 100-Leads, Body 14x14mm, Pitch 0.5mm, IPC Medium Density)
footprint VQG100_L (Thin QFP, 100-Leads, Body 14x14mm, Pitch 0.5mm, IPC High Density)
footprint VQG100_M (Thin QFP, 100-Leads, Body 14x14mm, Pitch 0.5mm, IPC Low Density)
signal-integrity model XCR3128XL_VQ100 (CoolRunner XPLA3)
part A pins: 63 I/O (io), 64 I/O (io), 65 I/O (io), 67 I/O (io), 68 I/O (io), 69 I/O (io), 70 I/O (io), 71 I/O (io), 72 I/O (io), 73 I/O, TDO (io)
part B pins: 75 I/O (io), 76 I/O (io), 77 I/O (io), 78 I/O (io), 79 I/O (io), 80 I/O (io), 81 I/O (io), 83 I/O (io), 84 I/O (io), 85 I/O (io)
part C pins: 52 I/O (io), 53 I/O (io), 54 I/O (io), 55 I/O (io), 56 I/O (io), 57 I/O (io), 58 I/O (io), 60 I/O (io), 61 I/O (io), 62 I/O, TCK (io)
part D pins: 40 I/O (io), 41 I/O (io), 42 I/O (io), 44 I/O (io), 45 I/O (io), 46 I/O (io), 47 I/O (io), 48 I/O (io), 49 I/O (io), 50 I/O (io)
part E pins: 1 I/O (io), 2 I/O (io), 92 I/O (io), 93 I/O (io), 94 I/O (io), 96 I/O (io), 97 I/O (io), 98 I/O (io), 99 I/O (io), 100 I/O (io)
part F pins: 4 I/O, TDI (io), 5 I/O (io), 6 I/O (io), 7 I/O (io), 8 I/O (io), 9 I/O (io), 10 I/O (io), 12 I/O (io), 13 I/O (io), 14 I/O (io)
part G pins: 27 I/O (io), 28 I/O (io), 29 I/O (io), 30 I/O (io), 31 I/O (io), 32 I/O (io), 33 I/O (io), 35 I/O (io), 36 I/O (io), 37 I/O (io)
part H pins: 15 I/O, TMS (io), 16 I/O (io), 17 I/O (io), 19 I/O (io), 20 I/O (io), 21 I/O (io), 22 I/O (io), 23 I/O (io), 24 I/O (io), 25 I/O (io)
part I pins: 11 PORT_EN (in), 87 IN3 / CLK3 (in), 88 IN2 / CLK2 (in), 89 IN1 / CLK1 (in), 90 IN0 / CLK0 (in)
part J pins: 3 VCC (power), 18 VCC (power), 34 VCC (power), 39 VCC (power), 51 VCC (power), 66 VCC (power), 82 VCC (power), 91 VCC (power)
part K pins: 26 GND (power), 38 GND (power), 43 GND (power), 59 GND (power), 74 GND (power), 86 GND (power), 95 GND (power)
part A text: BANK 1
part B text: BANK 2
part C text: BANK 3
part D text: BANK 4
part E text: BANK 5
part F text: BANK 6
part G text: BANK 7
part H text: BANK 8

## XCR3128XL-10CS144C
designator U?
CoolRunner XPLA3 3.3V, 128 Macrocell CPLD, 108 User I/Os, 144-Ball CSBGA, Commercial Grade; Published: 17-Jul-2002; LatestRevisionDate: 13-Apr-2006; LatestRevisionNote: IPC-7351 Footprint Added.; DatasheetVersion: ver2.6, Mar-2006; PackageVersion: ver1.3, Jan-2007; PackageReference: CS144; Publisher: Altium Limited; PackageDescription: 144-Ball Chip Scale Ball Grid Array (CS144); Code_JEDEC: MO-216-BAG-2 (Depopulated); ComponentLink1Description: XCR3128XL Datasheet; ComponentLink1URL: http://www.xilinx.com/support/documentation/data_sheets/ds016.pdf; ComponentLink2Description: CS144 Package Drawing; ComponentLink2URL: http://www.xilinx.com/support/documentation/package_specs/cs144.pdf; ComponentLink3Description: CoolRunner XPLA3 Documents; ComponentLink3URL: http://www.xilinx.com/support/documentation/coolrunner_xpla3.htm; ComponentLink4Description: Xilinx.com Home; ComponentLink4URL: http://www.xilinx.com
footprint CS144 (BGA, 144-Leads, Body 12x12mm, Pitch 0.8mm)
signal-integrity model XCR3128XL_CS144 (CoolRunner XPLA3)
part A pins: B12 I/O (io), D11 I/O, TDO (io), D12 I/O (io), D13 I/O (io), E10 I/O (io), E11 I/O (io), E12 I/O (io), E13 I/O (io), F10 I/O (io), F12 I/O (io), F13 I/O (io), G10 I/O (io), G11 I/O (io)
part B pins: A9 I/O (io), A11 I/O (io), A12 I/O (io), A13 I/O (io), B9 I/O (io), B10 I/O (io), B11 I/O (io), C8 I/O (io), C9 I/O (io), C10 I/O (io), D8 I/O (io), D9 I/O (io), D10 I/O (io)
part C pins: G12 I/O, TCK (io), G13 I/O (io), H11 I/O (io), H12 I/O (io), H13 I/O (io), J10 I/O (io), J11 I/O (io), J12 I/O (io), J13 I/O (io), K10 I/O (io), K11 I/O (io), K12 I/O (io), K13 I/O (io)
part D pins: K8 I/O (io), K9 I/O (io), L8 I/O (io), L9 I/O (io), L10 I/O (io), L11 I/O (io), M8 I/O (io), M10 I/O (io), M11 I/O (io), M12 I/O (io), N9 I/O (io), N10 I/O (io), N11 I/O (io)
part E pins: A1 I/O (io), A2 I/O (io), A3 I/O (io), A4 I/O (io), A5 I/O (io), B3 I/O (io), B4 I/O (io), B5 I/O (io), C3 I/O (io), C4 I/O (io), C6 I/O (io), D5 I/O (io), D6 I/O (io)
part F pins: B1 I/O (io), D1 I/O (io), D2 I/O, TDI (io), E1 I/O (io), E2 I/O (io), E3 I/O (io), E4 I/O (io), F2 I/O (io), F3 I/O (io), F4 I/O (io), G1 I/O (io), G2 I/O (io), G3 I/O (io)
part G pins: K4 I/O (io), K5 I/O (io), L4 I/O (io), L5 I/O (io), M3 I/O (io), M4 I/O (io), M5 I/O (io), M6 I/O (io), M7 I/O (io), N3 I/O (io), N4 I/O (io), N6 I/O (io), N7 I/O (io)
part H pins: H1 I/O (io), H2 I/O, TMS (io), H3 I/O (io), H4 I/O (io), J1 I/O (io), J3 I/O (io), J4 I/O (io), K1 I/O (io), K2 I/O (io), K3 I/O (io), L1 I/O (io), M2 I/O (io), N1 I/O (io)
part I pins: A7 IN2 / CLK2 (in), B7 IN3 / CLK3 (in), C7 IN1 / CLK1 (in), D7 IN0 / CLK0 (in), F1 PORT_EN (in)
part J pins: A10 VCC (power), B2 VCC (power), B6 VCC (power), B8 VCC (power), D4 VCC (power), F11 VCC (power), J2 VCC (power), K6 VCC (power), K7 VCC (power), L13 VCC (power), N5 VCC (power), N12 VCC (power)
part K pins: A6 GND (power), A8 GND (power), C5 GND (power), C13 GND (power), D3 GND (power), G4 GND (power), H10 GND (power), L6 GND (power), L7 GND (power), M9 GND (power), N2 GND (power), N8 GND (power)
part L pins: B13 NC, C1 NC, C2 NC, C11 NC, C12 NC, L2 NC, L3 NC, L12 NC, M1 NC, M13 NC, N13 NC
part A text: BANK 1
part B text: BANK 2
part C text: BANK 3
part D text: BANK 4
part E text: BANK 5
part F text: BANK 6
part G text: BANK 7
part H text: BANK 8

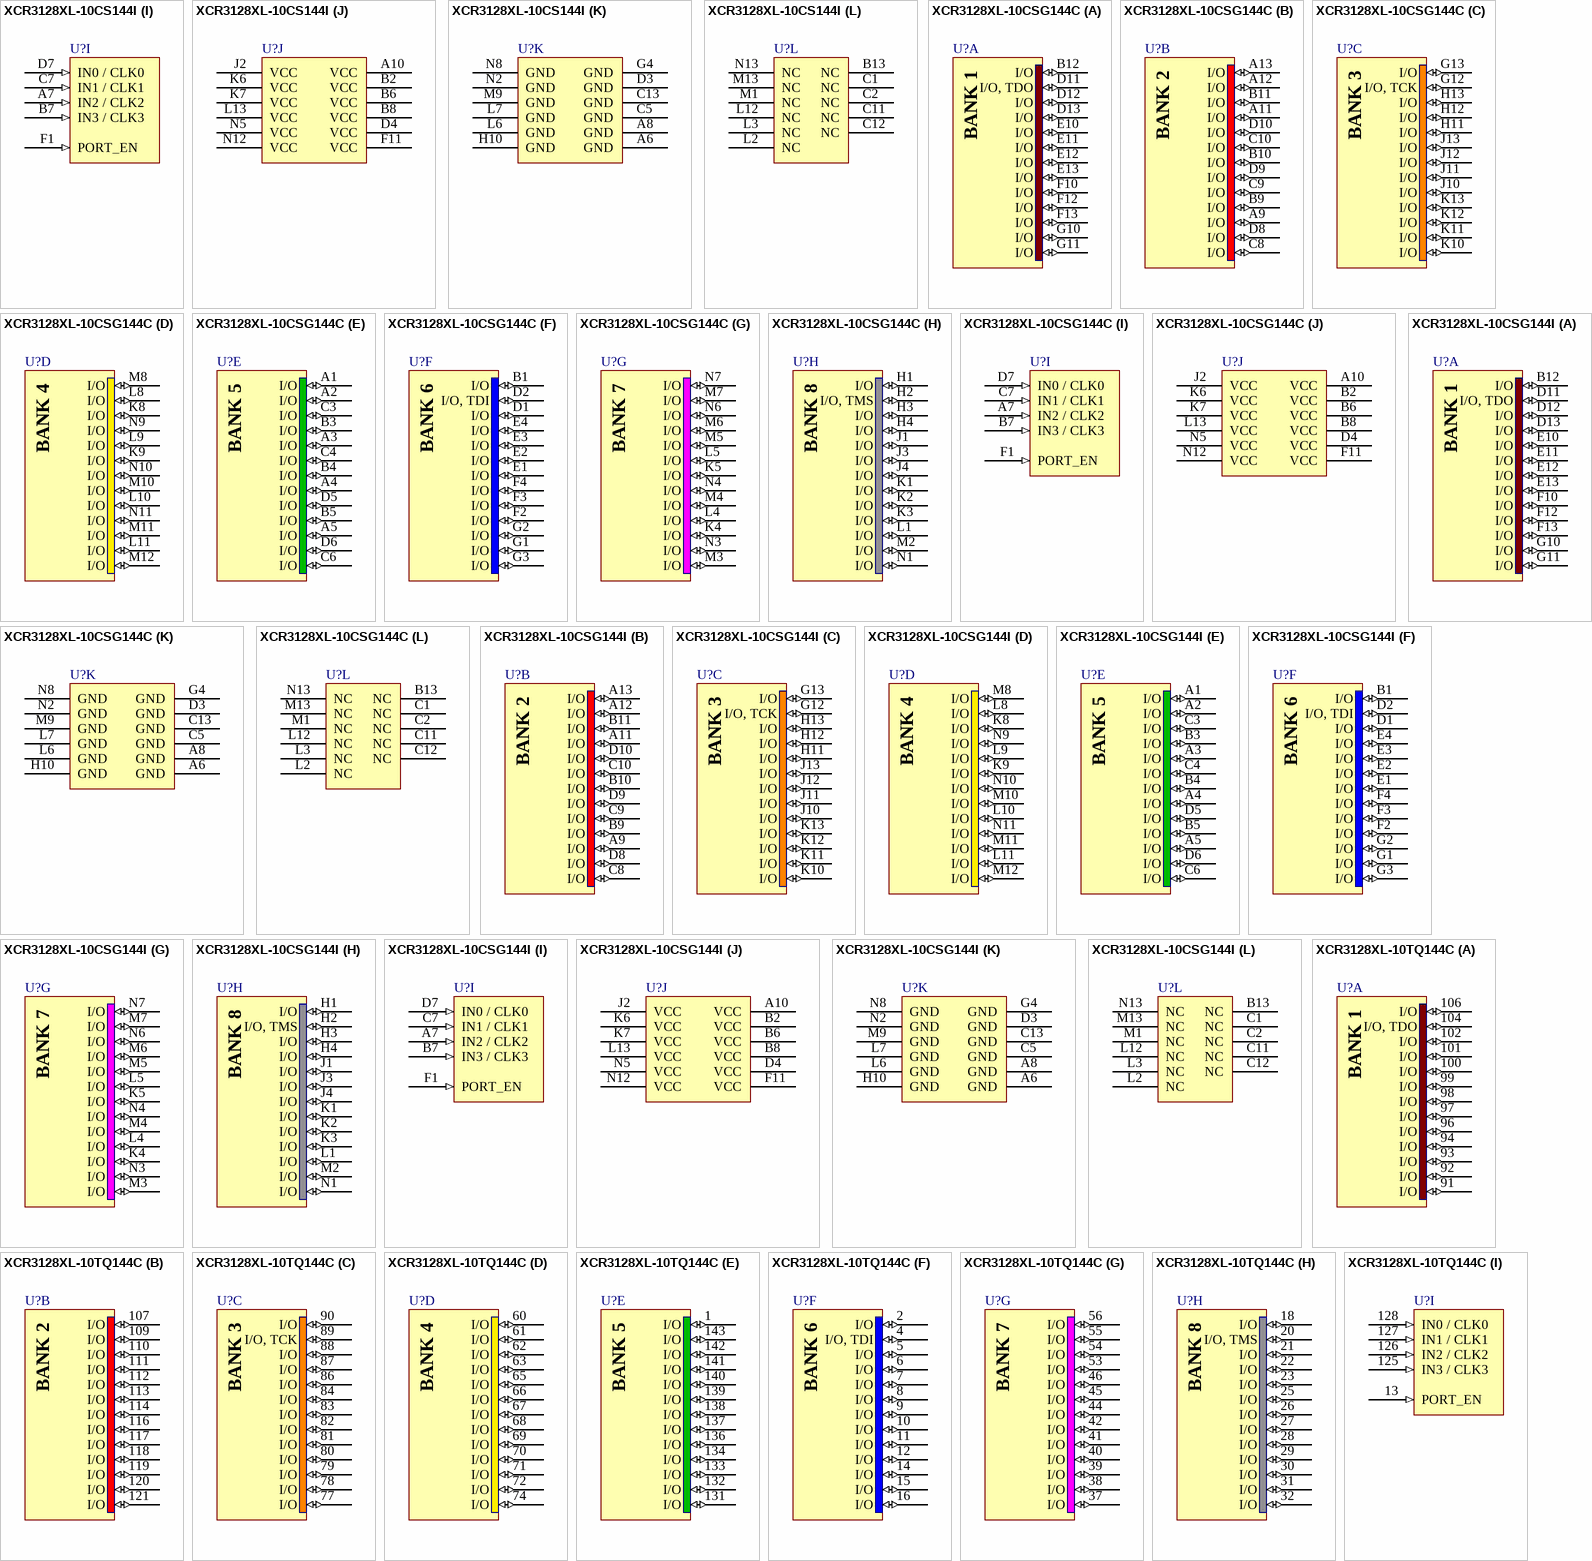
[diagram p22: symbols XCR3128XL-10CS144I to XCR3128XL-10TQ144C]

## XCR3128XL-10CS144I
designator U?
CoolRunner XPLA3 3.3V, 128 Macrocell CPLD, 108 User I/Os, 144-Ball CSBGA, Industrial Grade; Published: 17-Jul-2002; LatestRevisionDate: 13-Apr-2006; LatestRevisionNote: IPC-7351 Footprint Added.; DatasheetVersion: ver2.6, Mar-2006; PackageVersion: ver1.3, Jan-2007; PackageReference: CS144; Publisher: Altium Limited; PackageDescription: 144-Ball Chip Scale Ball Grid Array (CS144); Code_JEDEC: MO-216-BAG-2 (Depopulated); ComponentLink1Description: XCR3128XL Datasheet; ComponentLink1URL: http://www.xilinx.com/support/documentation/data_sheets/ds016.pdf; ComponentLink2Description: CS144 Package Drawing; ComponentLink2URL: http://www.xilinx.com/support/documentation/package_specs/cs144.pdf; ComponentLink3Description: CoolRunner XPLA3 Documents; ComponentLink3URL: http://www.xilinx.com/support/documentation/coolrunner_xpla3.htm; ComponentLink4Description: Xilinx.com Home; ComponentLink4URL: http://www.xilinx.com
footprint CS144 (BGA, 144-Leads, Body 12x12mm, Pitch 0.8mm)
signal-integrity model XCR3128XL_CS144 (CoolRunner XPLA3)
part A pins: B12 I/O (io), D11 I/O, TDO (io), D12 I/O (io), D13 I/O (io), E10 I/O (io), E11 I/O (io), E12 I/O (io), E13 I/O (io), F10 I/O (io), F12 I/O (io), F13 I/O (io), G10 I/O (io), G11 I/O (io)
part B pins: A9 I/O (io), A11 I/O (io), A12 I/O (io), A13 I/O (io), B9 I/O (io), B10 I/O (io), B11 I/O (io), C8 I/O (io), C9 I/O (io), C10 I/O (io), D8 I/O (io), D9 I/O (io), D10 I/O (io)
part C pins: G12 I/O, TCK (io), G13 I/O (io), H11 I/O (io), H12 I/O (io), H13 I/O (io), J10 I/O (io), J11 I/O (io), J12 I/O (io), J13 I/O (io), K10 I/O (io), K11 I/O (io), K12 I/O (io), K13 I/O (io)
part D pins: K8 I/O (io), K9 I/O (io), L8 I/O (io), L9 I/O (io), L10 I/O (io), L11 I/O (io), M8 I/O (io), M10 I/O (io), M11 I/O (io), M12 I/O (io), N9 I/O (io), N10 I/O (io), N11 I/O (io)
part E pins: A1 I/O (io), A2 I/O (io), A3 I/O (io), A4 I/O (io), A5 I/O (io), B3 I/O (io), B4 I/O (io), B5 I/O (io), C3 I/O (io), C4 I/O (io), C6 I/O (io), D5 I/O (io), D6 I/O (io)
part F pins: B1 I/O (io), D1 I/O (io), D2 I/O, TDI (io), E1 I/O (io), E2 I/O (io), E3 I/O (io), E4 I/O (io), F2 I/O (io), F3 I/O (io), F4 I/O (io), G1 I/O (io), G2 I/O (io), G3 I/O (io)
part G pins: K4 I/O (io), K5 I/O (io), L4 I/O (io), L5 I/O (io), M3 I/O (io), M4 I/O (io), M5 I/O (io), M6 I/O (io), M7 I/O (io), N3 I/O (io), N4 I/O (io), N6 I/O (io), N7 I/O (io)
part H pins: H1 I/O (io), H2 I/O, TMS (io), H3 I/O (io), H4 I/O (io), J1 I/O (io), J3 I/O (io), J4 I/O (io), K1 I/O (io), K2 I/O (io), K3 I/O (io), L1 I/O (io), M2 I/O (io), N1 I/O (io)
part I pins: A7 IN2 / CLK2 (in), B7 IN3 / CLK3 (in), C7 IN1 / CLK1 (in), D7 IN0 / CLK0 (in), F1 PORT_EN (in)
part J pins: A10 VCC (power), B2 VCC (power), B6 VCC (power), B8 VCC (power), D4 VCC (power), F11 VCC (power), J2 VCC (power), K6 VCC (power), K7 VCC (power), L13 VCC (power), N5 VCC (power), N12 VCC (power)
part K pins: A6 GND (power), A8 GND (power), C5 GND (power), C13 GND (power), D3 GND (power), G4 GND (power), H10 GND (power), L6 GND (power), L7 GND (power), M9 GND (power), N2 GND (power), N8 GND (power)
part L pins: B13 NC, C1 NC, C2 NC, C11 NC, C12 NC, L2 NC, L3 NC, L12 NC, M1 NC, M13 NC, N13 NC
part A text: BANK 1
part B text: BANK 2
part C text: BANK 3
part D text: BANK 4
part E text: BANK 5
part F text: BANK 6
part G text: BANK 7
part H text: BANK 8

## XCR3128XL-10CSG144C
designator U?
CoolRunner XPLA3 3.3V, 128 Macrocell CPLD, 108 User I/Os, 144-Ball CSBGA, Commercial Grade, Pb-Free; Published: 6-Oct-2005; LatestRevisionDate: 13-Apr-2006; LatestRevisionNote: IPC-7351 Footprint Added.; DatasheetVersion: ver2.6, Mar-2006; PackageVersion: ver1.3, Jan-2007; PackageReference: CSG144; Publisher: Altium Limited; PackageDescription: 144-Ball Chip Scale Ball Grid Array (CSG144) - Pb-Free; Code_JEDEC: MO-216-BAG-2 (Depopulated); ComponentLink1Description: XCR3128XL Datasheet; ComponentLink1URL: http://www.xilinx.com/support/documentation/data_sheets/ds016.pdf; ComponentLink2Description: CSG144 Package Drawing; ComponentLink2URL: http://www.xilinx.com/support/documentation/package_specs/cs144.pdf; ComponentLink3Description: CoolRunner XPLA3 Documents; ComponentLink3URL: http://www.xilinx.com/support/documentation/coolrunner_xpla3.htm; ComponentLink4Description: Xilinx.com Home; ComponentLink4URL: http://www.xilinx.com
footprint CSG144 (BGA, 144-Leads, Body 12x12mm, Pitch 0.8mm)
signal-integrity model XCR3128XL_CS144 (CoolRunner XPLA3)
part A pins: B12 I/O (io), D11 I/O, TDO (io), D12 I/O (io), D13 I/O (io), E10 I/O (io), E11 I/O (io), E12 I/O (io), E13 I/O (io), F10 I/O (io), F12 I/O (io), F13 I/O (io), G10 I/O (io), G11 I/O (io)
part B pins: A9 I/O (io), A11 I/O (io), A12 I/O (io), A13 I/O (io), B9 I/O (io), B10 I/O (io), B11 I/O (io), C8 I/O (io), C9 I/O (io), C10 I/O (io), D8 I/O (io), D9 I/O (io), D10 I/O (io)
part C pins: G12 I/O, TCK (io), G13 I/O (io), H11 I/O (io), H12 I/O (io), H13 I/O (io), J10 I/O (io), J11 I/O (io), J12 I/O (io), J13 I/O (io), K10 I/O (io), K11 I/O (io), K12 I/O (io), K13 I/O (io)
part D pins: K8 I/O (io), K9 I/O (io), L8 I/O (io), L9 I/O (io), L10 I/O (io), L11 I/O (io), M8 I/O (io), M10 I/O (io), M11 I/O (io), M12 I/O (io), N9 I/O (io), N10 I/O (io), N11 I/O (io)
part E pins: A1 I/O (io), A2 I/O (io), A3 I/O (io), A4 I/O (io), A5 I/O (io), B3 I/O (io), B4 I/O (io), B5 I/O (io), C3 I/O (io), C4 I/O (io), C6 I/O (io), D5 I/O (io), D6 I/O (io)
part F pins: B1 I/O (io), D1 I/O (io), D2 I/O, TDI (io), E1 I/O (io), E2 I/O (io), E3 I/O (io), E4 I/O (io), F2 I/O (io), F3 I/O (io), F4 I/O (io), G1 I/O (io), G2 I/O (io), G3 I/O (io)
part G pins: K4 I/O (io), K5 I/O (io), L4 I/O (io), L5 I/O (io), M3 I/O (io), M4 I/O (io), M5 I/O (io), M6 I/O (io), M7 I/O (io), N3 I/O (io), N4 I/O (io), N6 I/O (io), N7 I/O (io)
part H pins: H1 I/O (io), H2 I/O, TMS (io), H3 I/O (io), H4 I/O (io), J1 I/O (io), J3 I/O (io), J4 I/O (io), K1 I/O (io), K2 I/O (io), K3 I/O (io), L1 I/O (io), M2 I/O (io), N1 I/O (io)
part I pins: A7 IN2 / CLK2 (in), B7 IN3 / CLK3 (in), C7 IN1 / CLK1 (in), D7 IN0 / CLK0 (in), F1 PORT_EN (in)
part J pins: A10 VCC (power), B2 VCC (power), B6 VCC (power), B8 VCC (power), D4 VCC (power), F11 VCC (power), J2 VCC (power), K6 VCC (power), K7 VCC (power), L13 VCC (power), N5 VCC (power), N12 VCC (power)
part K pins: A6 GND (power), A8 GND (power), C5 GND (power), C13 GND (power), D3 GND (power), G4 GND (power), H10 GND (power), L6 GND (power), L7 GND (power), M9 GND (power), N2 GND (power), N8 GND (power)
part L pins: B13 NC, C1 NC, C2 NC, C11 NC, C12 NC, L2 NC, L3 NC, L12 NC, M1 NC, M13 NC, N13 NC
part A text: BANK 1
part B text: BANK 2
part C text: BANK 3
part D text: BANK 4
part E text: BANK 5
part F text: BANK 6
part G text: BANK 7
part H text: BANK 8

## XCR3128XL-10CSG144I
designator U?
CoolRunner XPLA3 3.3V, 128 Macrocell CPLD, 108 User I/Os, 144-Ball CSBGA, Industrial Grade, Pb-Free; Published: 6-Oct-2005; LatestRevisionDate: 13-Apr-2006; LatestRevisionNote: IPC-7351 Footprint Added.; DatasheetVersion: ver2.6, Mar-2006; PackageVersion: ver1.3, Jan-2007; PackageReference: CSG144; Publisher: Altium Limited; PackageDescription: 144-Ball Chip Scale Ball Grid Array (CSG144) - Pb-Free; Code_JEDEC: MO-216-BAG-2 (Depopulated); ComponentLink1Description: XCR3128XL Datasheet; ComponentLink1URL: http://www.xilinx.com/support/documentation/data_sheets/ds016.pdf; ComponentLink2Description: CSG144 Package Drawing; ComponentLink2URL: http://www.xilinx.com/support/documentation/package_specs/cs144.pdf; ComponentLink3Description: CoolRunner XPLA3 Documents; ComponentLink3URL: http://www.xilinx.com/support/documentation/coolrunner_xpla3.htm; ComponentLink4Description: Xilinx.com Home; ComponentLink4URL: http://www.xilinx.com
footprint CSG144 (BGA, 144-Leads, Body 12x12mm, Pitch 0.8mm)
signal-integrity model XCR3128XL_CS144 (CoolRunner XPLA3)
part A pins: B12 I/O (io), D11 I/O, TDO (io), D12 I/O (io), D13 I/O (io), E10 I/O (io), E11 I/O (io), E12 I/O (io), E13 I/O (io), F10 I/O (io), F12 I/O (io), F13 I/O (io), G10 I/O (io), G11 I/O (io)
part B pins: A9 I/O (io), A11 I/O (io), A12 I/O (io), A13 I/O (io), B9 I/O (io), B10 I/O (io), B11 I/O (io), C8 I/O (io), C9 I/O (io), C10 I/O (io), D8 I/O (io), D9 I/O (io), D10 I/O (io)
part C pins: G12 I/O, TCK (io), G13 I/O (io), H11 I/O (io), H12 I/O (io), H13 I/O (io), J10 I/O (io), J11 I/O (io), J12 I/O (io), J13 I/O (io), K10 I/O (io), K11 I/O (io), K12 I/O (io), K13 I/O (io)
part D pins: K8 I/O (io), K9 I/O (io), L8 I/O (io), L9 I/O (io), L10 I/O (io), L11 I/O (io), M8 I/O (io), M10 I/O (io), M11 I/O (io), M12 I/O (io), N9 I/O (io), N10 I/O (io), N11 I/O (io)
part E pins: A1 I/O (io), A2 I/O (io), A3 I/O (io), A4 I/O (io), A5 I/O (io), B3 I/O (io), B4 I/O (io), B5 I/O (io), C3 I/O (io), C4 I/O (io), C6 I/O (io), D5 I/O (io), D6 I/O (io)
part F pins: B1 I/O (io), D1 I/O (io), D2 I/O, TDI (io), E1 I/O (io), E2 I/O (io), E3 I/O (io), E4 I/O (io), F2 I/O (io), F3 I/O (io), F4 I/O (io), G1 I/O (io), G2 I/O (io), G3 I/O (io)
part G pins: K4 I/O (io), K5 I/O (io), L4 I/O (io), L5 I/O (io), M3 I/O (io), M4 I/O (io), M5 I/O (io), M6 I/O (io), M7 I/O (io), N3 I/O (io), N4 I/O (io), N6 I/O (io), N7 I/O (io)
part H pins: H1 I/O (io), H2 I/O, TMS (io), H3 I/O (io), H4 I/O (io), J1 I/O (io), J3 I/O (io), J4 I/O (io), K1 I/O (io), K2 I/O (io), K3 I/O (io), L1 I/O (io), M2 I/O (io), N1 I/O (io)
part I pins: A7 IN2 / CLK2 (in), B7 IN3 / CLK3 (in), C7 IN1 / CLK1 (in), D7 IN0 / CLK0 (in), F1 PORT_EN (in)
part J pins: A10 VCC (power), B2 VCC (power), B6 VCC (power), B8 VCC (power), D4 VCC (power), F11 VCC (power), J2 VCC (power), K6 VCC (power), K7 VCC (power), L13 VCC (power), N5 VCC (power), N12 VCC (power)
part K pins: A6 GND (power), A8 GND (power), C5 GND (power), C13 GND (power), D3 GND (power), G4 GND (power), H10 GND (power), L6 GND (power), L7 GND (power), M9 GND (power), N2 GND (power), N8 GND (power)
part L pins: B13 NC, C1 NC, C2 NC, C11 NC, C12 NC, L2 NC, L3 NC, L12 NC, M1 NC, M13 NC, N13 NC
part A text: BANK 1
part B text: BANK 2
part C text: BANK 3
part D text: BANK 4
part E text: BANK 5
part F text: BANK 6
part G text: BANK 7
part H text: BANK 8

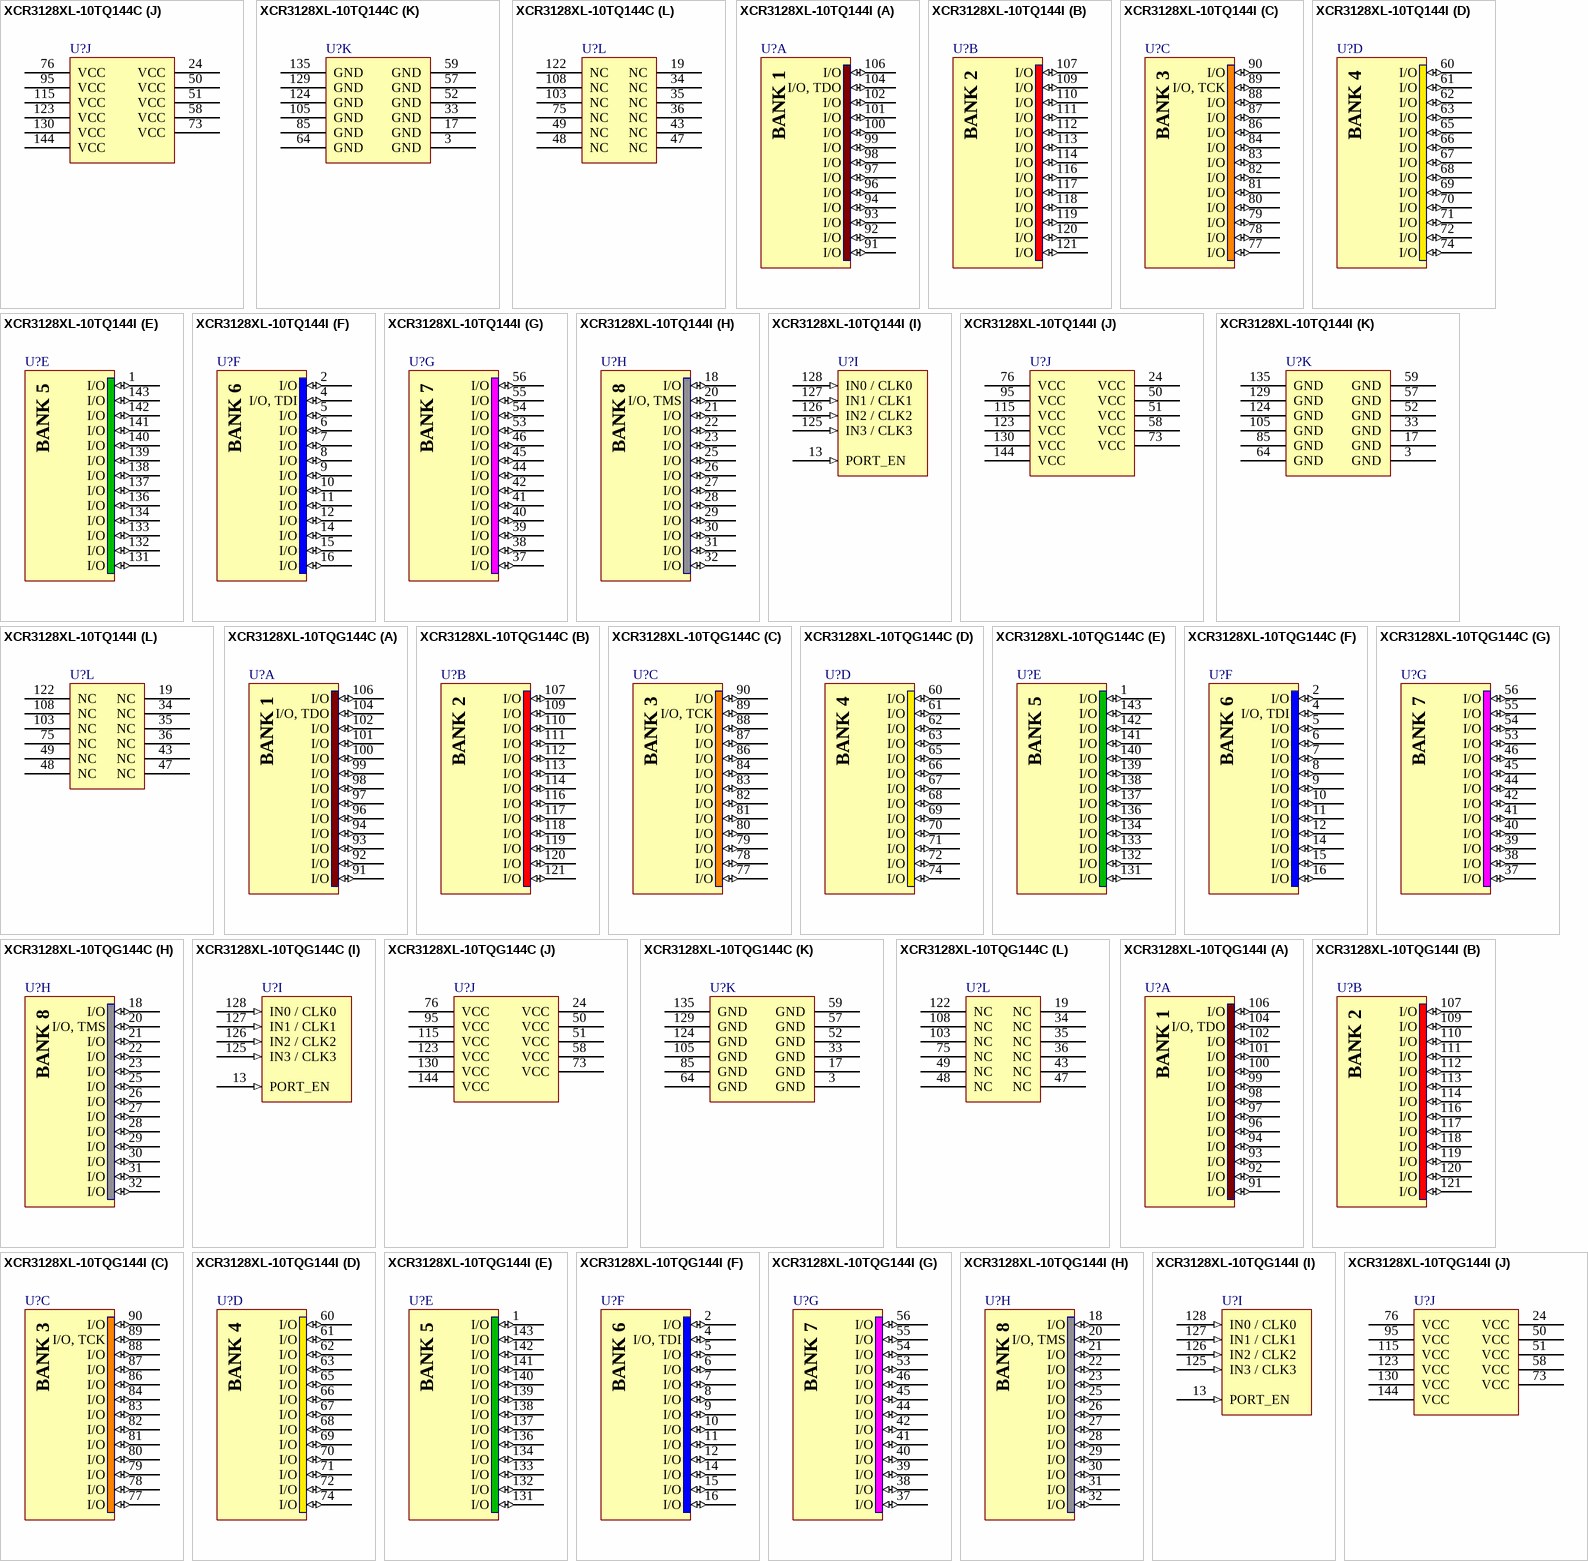
[diagram p23: symbols XCR3128XL-10TQ144C to XCR3128XL-10TQG144I]

## XCR3128XL-10TQ144C
designator U?
CoolRunner XPLA3 3.3V, 128 Macrocell CPLD, 108 User I/Os, 144-Pin TQFP, Commercial Grade; Published: 17-Jul-2002; LatestRevisionDate: 13-Apr-2006; LatestRevisionNote: IPC-7351 Footprint Added.; DatasheetVersion: ver2.6, Mar-2006; PackageVersion: ver1.2, Jun-2004; PackageReference: TQ144; Publisher: Altium Limited; PackageDescription: 144-Pin Thin Quad Flat Pack (TQ144); Code_JEDEC: MS-026-BFB; ComponentLink1Description: XCR3128XL Datasheet; ComponentLink1URL: http://www.xilinx.com/support/documentation/data_sheets/ds016.pdf; ComponentLink2Description: TQ144 Package Drawing; ComponentLink2URL: http://www.xilinx.com/support/documentation/package_specs/tq144.pdf; ComponentLink3Description: CoolRunner XPLA3 Documents; ComponentLink3URL: http://www.xilinx.com/support/documentation/coolrunner_xpla3.htm; ComponentLink4Description: Xilinx.com Home; ComponentLink4URL: http://www.xilinx.com
footprint TQ144_N (Thin QFP, 144-Leads, Body 20x20mm, Pitch 0.5mm, IPC Medium Density)
footprint TQ144_L (Thin QFP, 144-Leads, Body 20x20mm, Pitch 0.5mm, IPC High Density)
footprint TQ144_M (Thin QFP, 144-Leads, Body 20x20mm, Pitch 0.5mm, IPC Low Density)
signal-integrity model XCR3128XL_TQ144 (CoolRunner XPLA3)
part A pins: 91 I/O (io), 92 I/O (io), 93 I/O (io), 94 I/O (io), 96 I/O (io), 97 I/O (io), 98 I/O (io), 99 I/O (io), 100 I/O (io), 101 I/O (io), 102 I/O (io), 104 I/O, TDO (io), 106 I/O (io)
part B pins: 107 I/O (io), 109 I/O (io), 110 I/O (io), 111 I/O (io), 112 I/O (io), 113 I/O (io), 114 I/O (io), 116 I/O (io), 117 I/O (io), 118 I/O (io), 119 I/O (io), 120 I/O (io), 121 I/O (io)
part C pins: 77 I/O (io), 78 I/O (io), 79 I/O (io), 80 I/O (io), 81 I/O (io), 82 I/O (io), 83 I/O (io), 84 I/O (io), 86 I/O (io), 87 I/O (io), 88 I/O (io), 89 I/O, TCK (io), 90 I/O (io)
part D pins: 60 I/O (io), 61 I/O (io), 62 I/O (io), 63 I/O (io), 65 I/O (io), 66 I/O (io), 67 I/O (io), 68 I/O (io), 69 I/O (io), 70 I/O (io), 71 I/O (io), 72 I/O (io), 74 I/O (io)
part E pins: 1 I/O (io), 131 I/O (io), 132 I/O (io), 133 I/O (io), 134 I/O (io), 136 I/O (io), 137 I/O (io), 138 I/O (io), 139 I/O (io), 140 I/O (io), 141 I/O (io), 142 I/O (io), 143 I/O (io)
part F pins: 2 I/O (io), 4 I/O, TDI (io), 5 I/O (io), 6 I/O (io), 7 I/O (io), 8 I/O (io), 9 I/O (io), 10 I/O (io), 11 I/O (io), 12 I/O (io), 14 I/O (io), 15 I/O (io), 16 I/O (io)
part G pins: 37 I/O (io), 38 I/O (io), 39 I/O (io), 40 I/O (io), 41 I/O (io), 42 I/O (io), 44 I/O (io), 45 I/O (io), 46 I/O (io), 53 I/O (io), 54 I/O (io), 55 I/O (io), 56 I/O (io)
part H pins: 18 I/O (io), 20 I/O, TMS (io), 21 I/O (io), 22 I/O (io), 23 I/O (io), 25 I/O (io), 26 I/O (io), 27 I/O (io), 28 I/O (io), 29 I/O (io), 30 I/O (io), 31 I/O (io), 32 I/O (io)
part I pins: 13 PORT_EN (in), 125 IN3 / CLK3 (in), 126 IN2 / CLK2 (in), 127 IN1 / CLK1 (in), 128 IN0 / CLK0 (in)
part J pins: 24 VCC (power), 50 VCC (power), 51 VCC (power), 58 VCC (power), 73 VCC (power), 76 VCC (power), 95 VCC (power), 115 VCC (power), 123 VCC (power), 130 VCC (power), 144 VCC (power)
part K pins: 3 GND (power), 17 GND (power), 33 GND (power), 52 GND (power), 57 GND (power), 59 GND (power), 64 GND (power), 85 GND (power), 105 GND (power), 124 GND (power), 129 GND (power), 135 GND (power)
part L pins: 19 NC, 34 NC, 35 NC, 36 NC, 43 NC, 47 NC, 48 NC, 49 NC, 75 NC, 103 NC, 108 NC, 122 NC
part A text: BANK 1
part B text: BANK 2
part C text: BANK 3
part D text: BANK 4
part E text: BANK 5
part F text: BANK 6
part G text: BANK 7
part H text: BANK 8

## XCR3128XL-10TQ144I
designator U?
CoolRunner XPLA3 3.3V, 128 Macrocell CPLD, 108 User I/Os, 144-Pin TQFP, Industrial Grade; Published: 17-Jul-2002; LatestRevisionDate: 13-Apr-2006; LatestRevisionNote: IPC-7351 Footprint Added.; DatasheetVersion: ver2.6, Mar-2006; PackageVersion: ver1.2, Jun-2004; PackageReference: TQ144; Publisher: Altium Limited; PackageDescription: 144-Pin Thin Quad Flat Pack (TQ144); Code_JEDEC: MS-026-BFB; ComponentLink1Description: XCR3128XL Datasheet; ComponentLink1URL: http://www.xilinx.com/support/documentation/data_sheets/ds016.pdf; ComponentLink2Description: TQ144 Package Drawing; ComponentLink2URL: http://www.xilinx.com/support/documentation/package_specs/tq144.pdf; ComponentLink3Description: CoolRunner XPLA3 Documents; ComponentLink3URL: http://www.xilinx.com/support/documentation/coolrunner_xpla3.htm; ComponentLink4Description: Xilinx.com Home; ComponentLink4URL: http://www.xilinx.com
footprint TQ144_N (Thin QFP, 144-Leads, Body 20x20mm, Pitch 0.5mm, IPC Medium Density)
footprint TQ144_L (Thin QFP, 144-Leads, Body 20x20mm, Pitch 0.5mm, IPC High Density)
footprint TQ144_M (Thin QFP, 144-Leads, Body 20x20mm, Pitch 0.5mm, IPC Low Density)
signal-integrity model XCR3128XL_TQ144 (CoolRunner XPLA3)
part A pins: 91 I/O (io), 92 I/O (io), 93 I/O (io), 94 I/O (io), 96 I/O (io), 97 I/O (io), 98 I/O (io), 99 I/O (io), 100 I/O (io), 101 I/O (io), 102 I/O (io), 104 I/O, TDO (io), 106 I/O (io)
part B pins: 107 I/O (io), 109 I/O (io), 110 I/O (io), 111 I/O (io), 112 I/O (io), 113 I/O (io), 114 I/O (io), 116 I/O (io), 117 I/O (io), 118 I/O (io), 119 I/O (io), 120 I/O (io), 121 I/O (io)
part C pins: 77 I/O (io), 78 I/O (io), 79 I/O (io), 80 I/O (io), 81 I/O (io), 82 I/O (io), 83 I/O (io), 84 I/O (io), 86 I/O (io), 87 I/O (io), 88 I/O (io), 89 I/O, TCK (io), 90 I/O (io)
part D pins: 60 I/O (io), 61 I/O (io), 62 I/O (io), 63 I/O (io), 65 I/O (io), 66 I/O (io), 67 I/O (io), 68 I/O (io), 69 I/O (io), 70 I/O (io), 71 I/O (io), 72 I/O (io), 74 I/O (io)
part E pins: 1 I/O (io), 131 I/O (io), 132 I/O (io), 133 I/O (io), 134 I/O (io), 136 I/O (io), 137 I/O (io), 138 I/O (io), 139 I/O (io), 140 I/O (io), 141 I/O (io), 142 I/O (io), 143 I/O (io)
part F pins: 2 I/O (io), 4 I/O, TDI (io), 5 I/O (io), 6 I/O (io), 7 I/O (io), 8 I/O (io), 9 I/O (io), 10 I/O (io), 11 I/O (io), 12 I/O (io), 14 I/O (io), 15 I/O (io), 16 I/O (io)
part G pins: 37 I/O (io), 38 I/O (io), 39 I/O (io), 40 I/O (io), 41 I/O (io), 42 I/O (io), 44 I/O (io), 45 I/O (io), 46 I/O (io), 53 I/O (io), 54 I/O (io), 55 I/O (io), 56 I/O (io)
part H pins: 18 I/O (io), 20 I/O, TMS (io), 21 I/O (io), 22 I/O (io), 23 I/O (io), 25 I/O (io), 26 I/O (io), 27 I/O (io), 28 I/O (io), 29 I/O (io), 30 I/O (io), 31 I/O (io), 32 I/O (io)
part I pins: 13 PORT_EN (in), 125 IN3 / CLK3 (in), 126 IN2 / CLK2 (in), 127 IN1 / CLK1 (in), 128 IN0 / CLK0 (in)
part J pins: 24 VCC (power), 50 VCC (power), 51 VCC (power), 58 VCC (power), 73 VCC (power), 76 VCC (power), 95 VCC (power), 115 VCC (power), 123 VCC (power), 130 VCC (power), 144 VCC (power)
part K pins: 3 GND (power), 17 GND (power), 33 GND (power), 52 GND (power), 57 GND (power), 59 GND (power), 64 GND (power), 85 GND (power), 105 GND (power), 124 GND (power), 129 GND (power), 135 GND (power)
part L pins: 19 NC, 34 NC, 35 NC, 36 NC, 43 NC, 47 NC, 48 NC, 49 NC, 75 NC, 103 NC, 108 NC, 122 NC
part A text: BANK 1
part B text: BANK 2
part C text: BANK 3
part D text: BANK 4
part E text: BANK 5
part F text: BANK 6
part G text: BANK 7
part H text: BANK 8